# Altium schematic symbol library Connectors Sym Lib.SchLib: 80 symbols
Pins are listed as number, name and electrical type; pins without a type are passive.

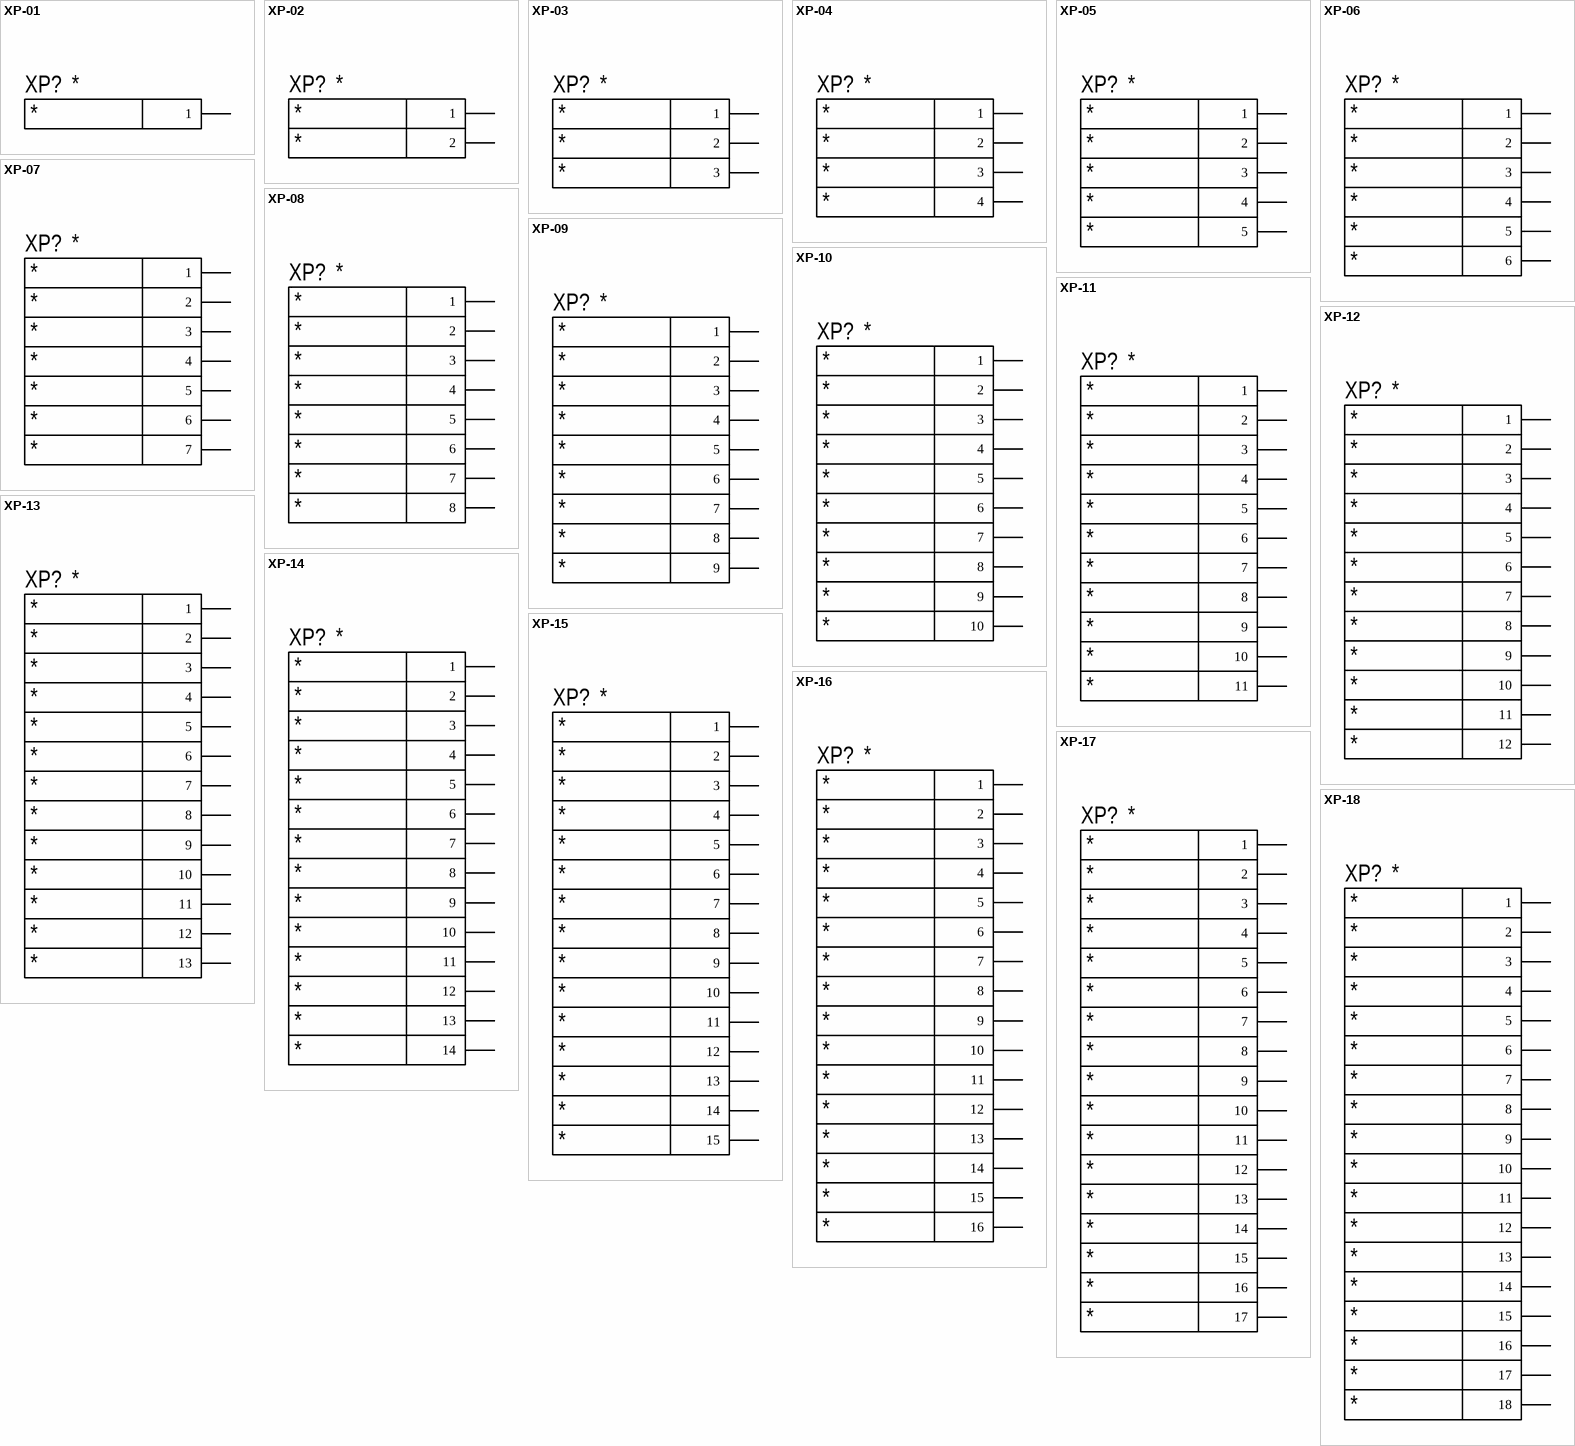
[diagram p0: symbols XP-01 to XP-18]

## XP-01
designator XP?
Pin 1 Name: *; Name Connector: *
pins: 1

## XP-02
designator XP?
Pin 2 Name: *; Pin 1 Name: *; Name Connector: *
pins: 1, 2

## XP-03
designator XP?
Pin 3 Name: *; Pin 2 Name: *; Pin 1 Name: *; Name Connector: *
pins: 1, 2, 3

## XP-04
designator XP?
Pin 4 Name: *; Pin 3 Name: *; Pin 2 Name: *; Pin 1 Name: *; Name Connector: *
pins: 1, 2, 3, 4

## XP-05
designator XP?
Pin 5 Name: *; Pin 4 Name: *; Pin 3 Name: *; Pin 2 Name: *; Pin 1 Name: *; Name Connector: *
pins: 1, 2, 3, 4, 5

## XP-06
designator XP?
Pin 6 Name: *; Pin 5 Name: *; Pin 4 Name: *; Pin 3 Name: *; Pin 2 Name: *; Pin 1 Name: *; Name Connector: *
pins: 1, 2, 3, 4, 5, 6

## XP-07
designator XP?
Pin 7 Name: *; Pin 6 Name: *; Pin 5 Name: *; Pin 4 Name: *; Pin 3 Name: *; Pin 2 Name: *; Pin 1 Name: *; Name Connector: *
pins: 1, 2, 3, 4, 5, 6, 7

## XP-08
designator XP?
Pin 8 Name: *; Pin 7 Name: *; Pin 6 Name: *; Pin 5 Name: *; Pin 4 Name: *; Pin 3 Name: *; Pin 2 Name: *; Pin 1 Name: *; Name Connector: *
pins: 1, 2, 3, 4, 5, 6, 7, 8

## XP-09
designator XP?
Pin 9 Name: *; Pin 8 Name: *; Pin 7 Name: *; Pin 6 Name: *; Pin 5 Name: *; Pin 4 Name: *; Pin 3 Name: *; Pin 2 Name: *; Pin 1 Name: *; Name Connector: *
pins: 1, 2, 3, 4, 5, 6, 7, 8, 9

## XP-10
designator XP?
Pin 10 Name: *; Pin 9 Name: *; Pin 8 Name: *; Pin 7 Name: *; Pin 6 Name: *; Pin 5 Name: *; Pin 4 Name: *; Pin 3 Name: *; Pin 2 Name: *; Pin 1 Name: *; Name Connector: *
pins: 1, 2, 3, 4, 5, 6, 7, 8, 9, 10

## XP-11
designator XP?
Pin 11 Name: *; Pin 10 Name: *; Pin 9 Name: *; Pin 8 Name: *; Pin 7 Name: *; Pin 6 Name: *; Pin 5 Name: *; Pin 4 Name: *; Pin 3 Name: *; Pin 2 Name: *; Pin 1 Name: *; Name Connector: *
pins: 1, 2, 3, 4, 5, 6, 7, 8, 9, 10, 11

## XP-12
designator XP?
Pin 12 Name: *; Pin 11 Name: *; Pin 10 Name: *; Pin 9 Name: *; Pin 8 Name: *; Pin 7 Name: *; Pin 6 Name: *; Pin 5 Name: *; Pin 4 Name: *; Pin 3 Name: *; Pin 2 Name: *; Pin 1 Name: *; Name Connector: *
pins: 1, 2, 3, 4, 5, 6, 7, 8, 9, 10, 11, 12

## XP-13
designator XP?
Pin 13 Name: *; Pin 12 Name: *; Pin 11 Name: *; Pin 10 Name: *; Pin 9 Name: *; Pin 8 Name: *; Pin 7 Name: *; Pin 6 Name: *; Pin 5 Name: *; Pin 4 Name: *; Pin 3 Name: *; Pin 2 Name: *; Pin 1 Name: *; Name Connector: *
pins: 1, 2, 3, 4, 5, 6, 7, 8, 9, 10, 11, 12, 13

## XP-14
designator XP?
Pin 14 Name: *; Pin 13 Name: *; Pin 12 Name: *; Pin 11 Name: *; Pin 10 Name: *; Pin 9 Name: *; Pin 8 Name: *; Pin 7 Name: *; Pin 6 Name: *; Pin 5 Name: *; Pin 4 Name: *; Pin 3 Name: *; Pin 2 Name: *; Pin 1 Name: *; Name Connector: *
pins: 1, 2, 3, 4, 5, 6, 7, 8, 9, 10, 11, 12, 13, 14

## XP-15
designator XP?
Pin 15 Name: *; Pin 14 Name: *; Pin 13 Name: *; Pin 12 Name: *; Pin 11 Name: *; Pin 10 Name: *; Pin 9 Name: *; Pin 8 Name: *; Pin 7 Name: *; Pin 6 Name: *; Pin 5 Name: *; Pin 4 Name: *; Pin 3 Name: *; Pin 2 Name: *; Pin 1 Name: *; Name Connector: *
pins: 1, 2, 3, 4, 5, 6, 7, 8, 9, 10, 11, 12, 13, 14, 15

## XP-16
designator XP?
Pin 16 Name: *; Pin 15 Name: *; Pin 14 Name: *; Pin 13 Name: *; Pin 12 Name: *; Pin 11 Name: *; Pin 10 Name: *; Pin 9 Name: *; Pin 8 Name: *; Pin 7 Name: *; Pin 6 Name: *; Pin 5 Name: *; Pin 4 Name: *; Pin 3 Name: *; Pin 2 Name: *; Pin 1 Name: *; Name Connector: *
pins: 1, 2, 3, 4, 5, 6, 7, 8, 9, 10, 11, 12, 13, 14, 15, 16

## XP-17
designator XP?
Pin 17 Name: *; Pin 16 Name: *; Pin 15 Name: *; Pin 14 Name: *; Pin 13 Name: *; Pin 12 Name: *; Pin 11 Name: *; Pin 10 Name: *; Pin 9 Name: *; Pin 8 Name: *; Pin 7 Name: *; Pin 6 Name: *; Pin 5 Name: *; Pin 4 Name: *; Pin 3 Name: *; Pin 2 Name: *; Pin 1 Name: *; Name Connector: *
pins: 1, 2, 3, 4, 5, 6, 7, 8, 9, 10, 11, 12, 13, 14, 15, 16, 17

## XP-18
designator XP?
Pin 18 Name: *; Pin 17 Name: *; Pin 16 Name: *; Pin 15 Name: *; Pin 14 Name: *; Pin 13 Name: *; Pin 12 Name: *; Pin 11 Name: *; Pin 10 Name: *; Pin 9 Name: *; Pin 8 Name: *; Pin 7 Name: *; Pin 6 Name: *; Pin 5 Name: *; Pin 4 Name: *; Pin 3 Name: *; Pin 2 Name: *; Pin 1 Name: *; Name Connector: *
pins: 1, 2, 3, 4, 5, 6, 7, 8, 9, 10, 11, 12, 13, 14, 15, 16, 17, 18

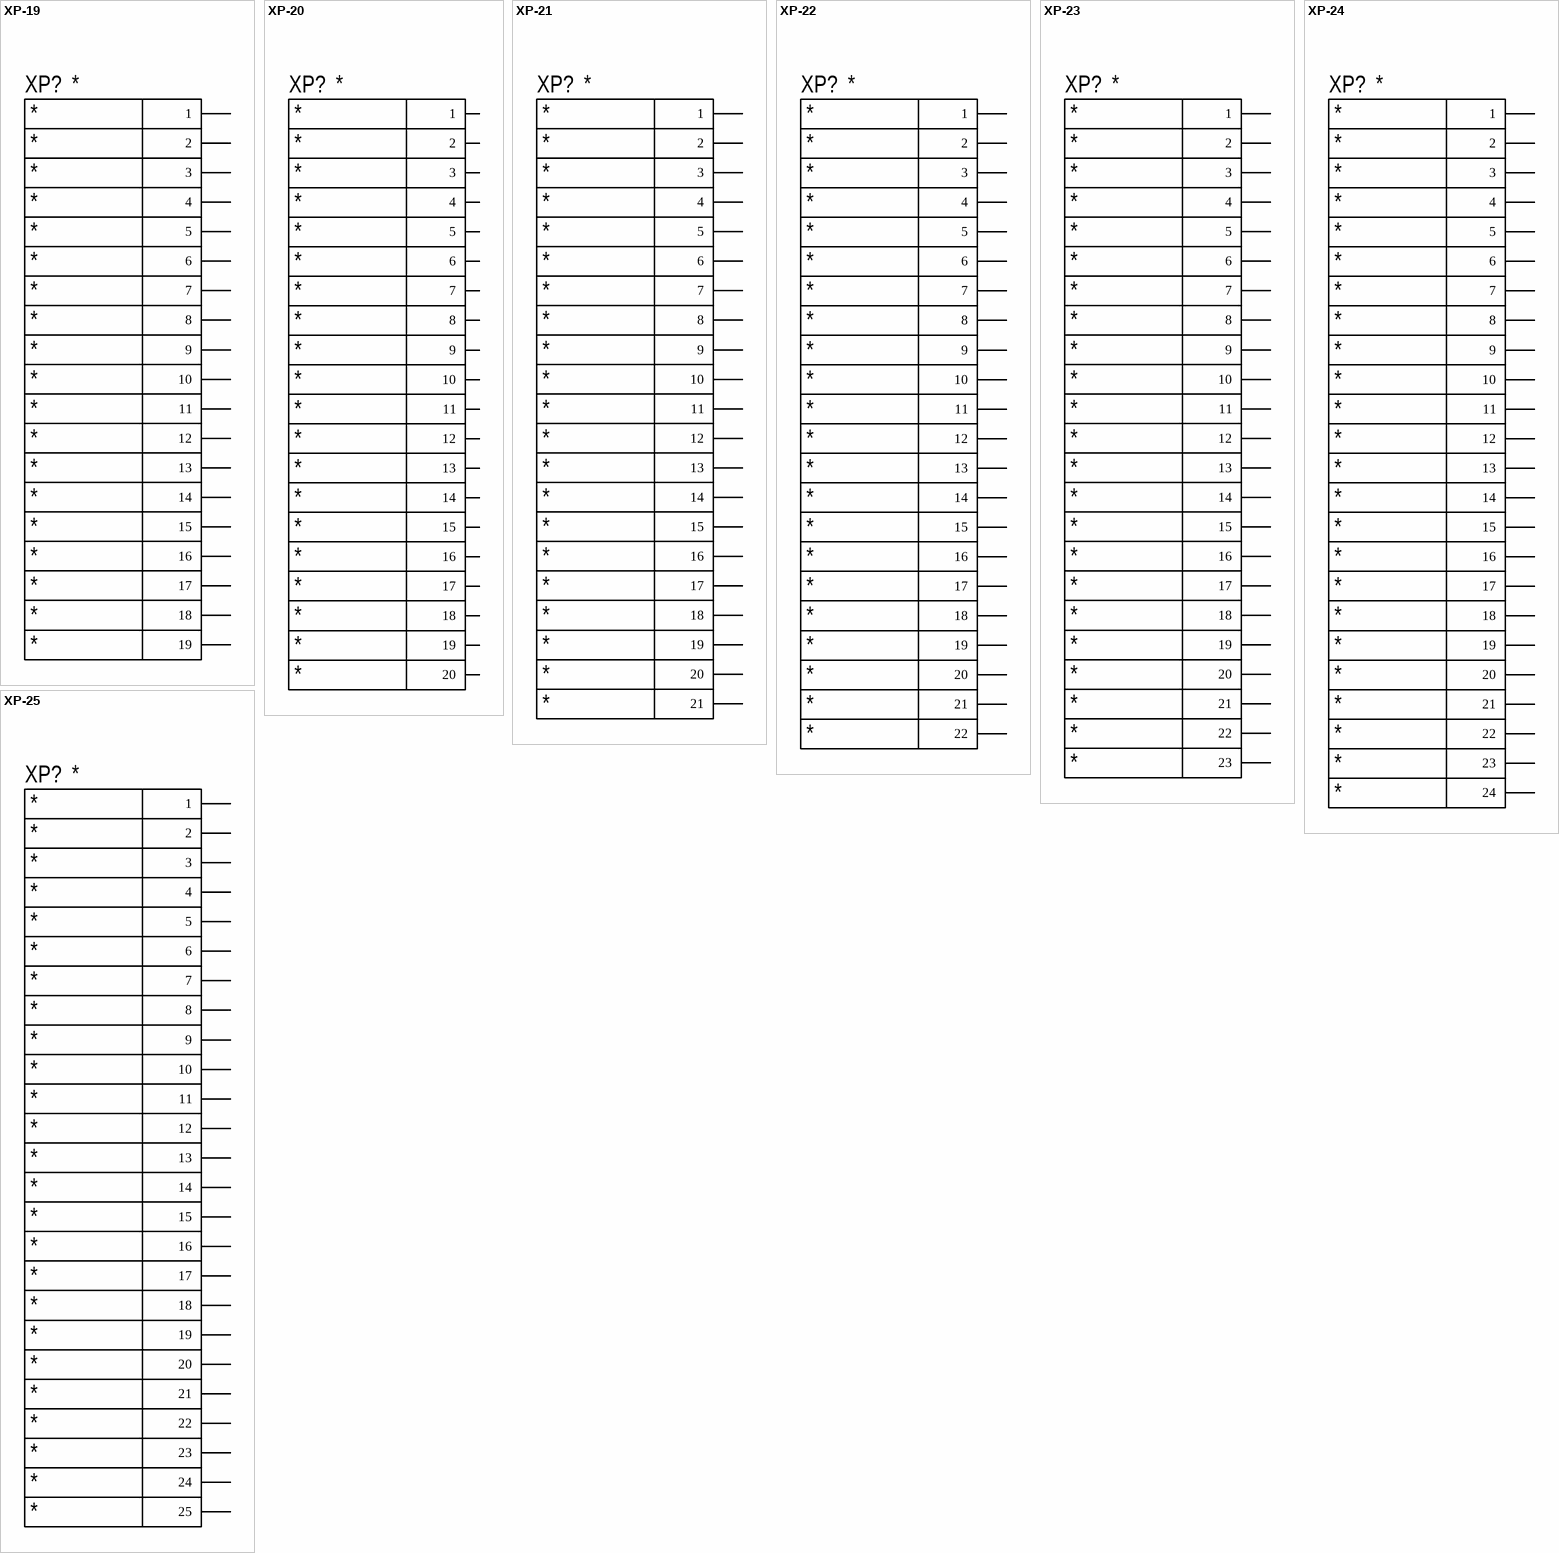
[diagram p1: symbols XP-19 to XP-25]

## XP-19
designator XP?
Pin 19 Name: *; Pin 18 Name: *; Pin 17 Name: *; Pin 16 Name: *; Pin 15 Name: *; Pin 14 Name: *; Pin 13 Name: *; Pin 12 Name: *; Pin 11 Name: *; Pin 10 Name: *; Pin 9 Name: *; Pin 8 Name: *; Pin 7 Name: *; Pin 6 Name: *; Pin 5 Name: *; Pin 4 Name: *; Pin 3 Name: *; Pin 2 Name: *; Pin 1 Name: *; Name Connector: *
pins: 1, 2, 3, 4, 5, 6, 7, 8, 9, 10, 11, 12, 13, 14, 15, 16, 17, 18, 19

## XP-20
designator XP?
Pin 20 Name: *; Pin 19 Name: *; Pin 18 Name: *; Pin 17 Name: *; Pin 16 Name: *; Pin 15 Name: *; Pin 14 Name: *; Pin 13 Name: *; Pin 12 Name: *; Pin 11 Name: *; Pin 10 Name: *; Pin 9 Name: *; Pin 8 Name: *; Pin 7 Name: *; Pin 6 Name: *; Pin 5 Name: *; Pin 4 Name: *; Pin 3 Name: *; Pin 2 Name: *; Pin 1 Name: *; Name Connector: *
pins: 1, 2, 3, 4, 5, 6, 7, 8, 9, 10, 11, 12, 13, 14, 15, 16, 17, 18, 19, 20

## XP-21
designator XP?
Pin 21 Name: *; Pin 20 Name: *; Pin 19 Name: *; Pin 18 Name: *; Pin 17 Name: *; Pin 16 Name: *; Pin 15 Name: *; Pin 14 Name: *; Pin 13 Name: *; Pin 12 Name: *; Pin 11 Name: *; Pin 10 Name: *; Pin 9 Name: *; Pin 8 Name: *; Pin 7 Name: *; Pin 6 Name: *; Pin 5 Name: *; Pin 4 Name: *; Pin 3 Name: *; Pin 2 Name: *; Pin 1 Name: *; Name Connector: *
pins: 1, 2, 3, 4, 5, 6, 7, 8, 9, 10, 11, 12, 13, 14, 15, 16, 17, 18, 19, 20, 21

## XP-22
designator XP?
Pin 22 Name: *; Pin 21 Name: *; Pin 20 Name: *; Pin 19 Name: *; Pin 18 Name: *; Pin 17 Name: *; Pin 16 Name: *; Pin 15 Name: *; Pin 14 Name: *; Pin 13 Name: *; Pin 12 Name: *; Pin 11 Name: *; Pin 10 Name: *; Pin 9 Name: *; Pin 8 Name: *; Pin 7 Name: *; Pin 6 Name: *; Pin 5 Name: *; Pin 4 Name: *; Pin 3 Name: *; Pin 2 Name: *; Pin 1 Name: *; Name Connector: *
pins: 1, 2, 3, 4, 5, 6, 7, 8, 9, 10, 11, 12, 13, 14, 15, 16, 17, 18, 19, 20, 21, 22

## XP-23
designator XP?
Pin 23 Name: *; Pin 22 Name: *; Pin 21 Name: *; Pin 20 Name: *; Pin 19 Name: *; Pin 18 Name: *; Pin 17 Name: *; Pin 16 Name: *; Pin 15 Name: *; Pin 14 Name: *; Pin 13 Name: *; Pin 12 Name: *; Pin 11 Name: *; Pin 10 Name: *; Pin 9 Name: *; Pin 8 Name: *; Pin 7 Name: *; Pin 6 Name: *; Pin 5 Name: *; Pin 4 Name: *; Pin 3 Name: *; Pin 2 Name: *; Pin 1 Name: *; Name Connector: *
pins: 1, 2, 3, 4, 5, 6, 7, 8, 9, 10, 11, 12, 13, 14, 15, 16, 17, 18, 19, 20, 21, 22, 23

## XP-24
designator XP?
Pin 24 Name: *; Pin 23 Name: *; Pin 22 Name: *; Pin 21 Name: *; Pin 20 Name: *; Pin 19 Name: *; Pin 18 Name: *; Pin 17 Name: *; Pin 16 Name: *; Pin 15 Name: *; Pin 14 Name: *; Pin 13 Name: *; Pin 12 Name: *; Pin 11 Name: *; Pin 10 Name: *; Pin 9 Name: *; Pin 8 Name: *; Pin 7 Name: *; Pin 6 Name: *; Pin 5 Name: *; Pin 4 Name: *; Pin 3 Name: *; Pin 2 Name: *; Pin 1 Name: *; Name Connector: *
pins: 1, 2, 3, 4, 5, 6, 7, 8, 9, 10, 11, 12, 13, 14, 15, 16, 17, 18, 19, 20, 21, 22, 23, 24

## XP-25
designator XP?
Pin 25 Name: *; Pin 24 Name: *; Pin 23 Name: *; Pin 22 Name: *; Pin 21 Name: *; Pin 20 Name: *; Pin 19 Name: *; Pin 18 Name: *; Pin 17 Name: *; Pin 16 Name: *; Pin 15 Name: *; Pin 14 Name: *; Pin 13 Name: *; Pin 12 Name: *; Pin 11 Name: *; Pin 10 Name: *; Pin 9 Name: *; Pin 8 Name: *; Pin 7 Name: *; Pin 6 Name: *; Pin 5 Name: *; Pin 4 Name: *; Pin 3 Name: *; Pin 2 Name: *; Pin 1 Name: *; Name Connector: *
pins: 1, 2, 3, 4, 5, 6, 7, 8, 9, 10, 11, 12, 13, 14, 15, 16, 17, 18, 19, 20, 21, 22, 23, 24, 25

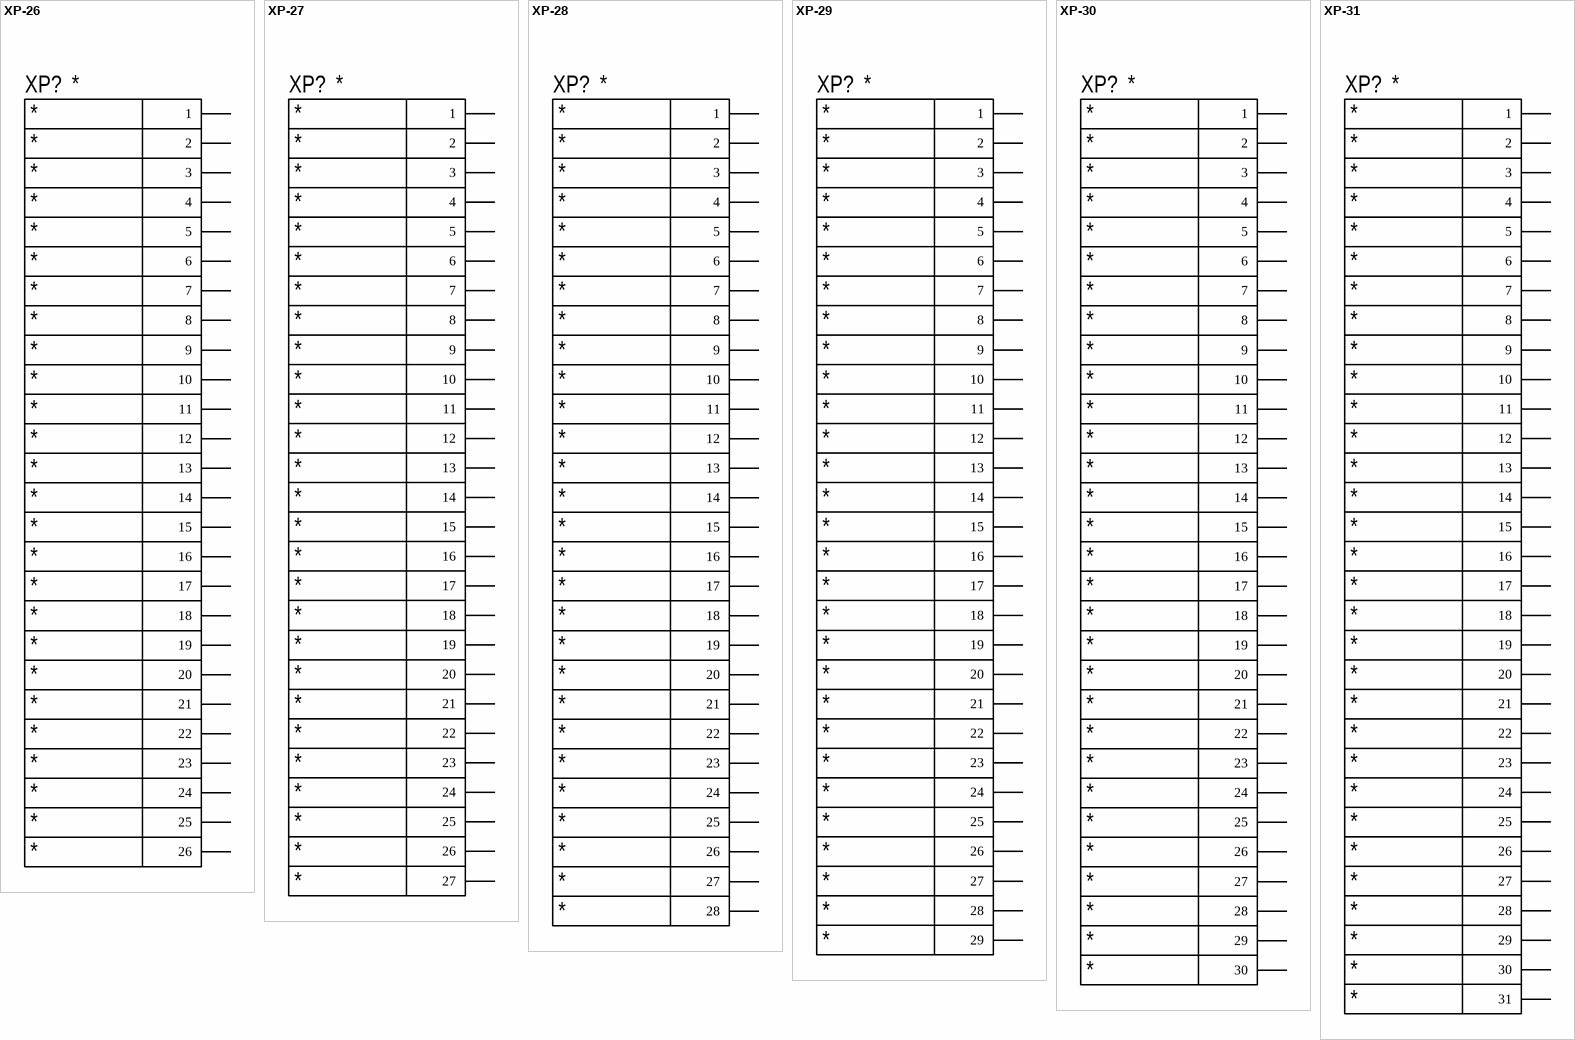
[diagram p2: symbols XP-26 to XP-31]

## XP-26
designator XP?
Pin 25 Name: *; Pin 24 Name: *; Pin 23 Name: *; Pin 22 Name: *; Pin 21 Name: *; Pin 20 Name: *; Pin 19 Name: *; Pin 18 Name: *; Pin 17 Name: *; Pin 16 Name: *; Pin 15 Name: *; Pin 14 Name: *; Pin 13 Name: *; Pin 12 Name: *; Pin 11 Name: *; Pin 10 Name: *; Pin 9 Name: *; Pin 8 Name: *; Pin 7 Name: *; Pin 6 Name: *; Pin 5 Name: *; Pin 4 Name: *; Pin 3 Name: *; Pin 2 Name: *; Pin 1 Name: *; Name Connector: *; Pin 26 Name: *
pins: 1, 2, 3, 4, 5, 6, 7, 8, 9, 10, 11, 12, 13, 14, 15, 16, 17, 18, 19, 20, 21, 22, 23, 24, 25, 26

## XP-27
designator XP?
Pin 25 Name: *; Pin 24 Name: *; Pin 23 Name: *; Pin 22 Name: *; Pin 21 Name: *; Pin 20 Name: *; Pin 19 Name: *; Pin 18 Name: *; Pin 17 Name: *; Pin 16 Name: *; Pin 15 Name: *; Pin 14 Name: *; Pin 13 Name: *; Pin 12 Name: *; Pin 11 Name: *; Pin 10 Name: *; Pin 9 Name: *; Pin 8 Name: *; Pin 7 Name: *; Pin 6 Name: *; Pin 5 Name: *; Pin 4 Name: *; Pin 3 Name: *; Pin 2 Name: *; Pin 1 Name: *; Name Connector: *; Pin 26 Name: *; Pin 27 Name: *
pins: 1, 2, 3, 4, 5, 6, 7, 8, 9, 10, 11, 12, 13, 14, 15, 16, 17, 18, 19, 20, 21, 22, 23, 24, 25, 26, 27

## XP-28
designator XP?
Pin 25 Name: *; Pin 24 Name: *; Pin 23 Name: *; Pin 22 Name: *; Pin 21 Name: *; Pin 20 Name: *; Pin 19 Name: *; Pin 18 Name: *; Pin 17 Name: *; Pin 16 Name: *; Pin 15 Name: *; Pin 14 Name: *; Pin 13 Name: *; Pin 12 Name: *; Pin 11 Name: *; Pin 10 Name: *; Pin 9 Name: *; Pin 8 Name: *; Pin 7 Name: *; Pin 6 Name: *; Pin 5 Name: *; Pin 4 Name: *; Pin 3 Name: *; Pin 2 Name: *; Pin 1 Name: *; Name Connector: *; Pin 26 Name: *; Pin 27 Name: *; Pin 28 Name: *
pins: 1, 2, 3, 4, 5, 6, 7, 8, 9, 10, 11, 12, 13, 14, 15, 16, 17, 18, 19, 20, 21, 22, 23, 24, 25, 26, 27, 28

## XP-29
designator XP?
Pin 25 Name: *; Pin 24 Name: *; Pin 23 Name: *; Pin 22 Name: *; Pin 21 Name: *; Pin 20 Name: *; Pin 19 Name: *; Pin 18 Name: *; Pin 17 Name: *; Pin 16 Name: *; Pin 15 Name: *; Pin 14 Name: *; Pin 13 Name: *; Pin 12 Name: *; Pin 11 Name: *; Pin 10 Name: *; Pin 9 Name: *; Pin 8 Name: *; Pin 7 Name: *; Pin 6 Name: *; Pin 5 Name: *; Pin 4 Name: *; Pin 3 Name: *; Pin 2 Name: *; Pin 1 Name: *; Name Connector: *; Pin 26 Name: *; Pin 27 Name: *; Pin 28 Name: *; Pin 29 Name: *
pins: 1, 2, 3, 4, 5, 6, 7, 8, 9, 10, 11, 12, 13, 14, 15, 16, 17, 18, 19, 20, 21, 22, 23, 24, 25, 26, 27, 28, 29

## XP-30
designator XP?
Pin 25 Name: *; Pin 24 Name: *; Pin 23 Name: *; Pin 22 Name: *; Pin 21 Name: *; Pin 20 Name: *; Pin 19 Name: *; Pin 18 Name: *; Pin 17 Name: *; Pin 16 Name: *; Pin 15 Name: *; Pin 14 Name: *; Pin 13 Name: *; Pin 12 Name: *; Pin 11 Name: *; Pin 10 Name: *; Pin 9 Name: *; Pin 8 Name: *; Pin 7 Name: *; Pin 6 Name: *; Pin 5 Name: *; Pin 4 Name: *; Pin 3 Name: *; Pin 2 Name: *; Pin 1 Name: *; Name Connector: *; Pin 26 Name: *; Pin 27 Name: *; Pin 28 Name: *; Pin 29 Name: *; Pin 30 Name: *
pins: 1, 2, 3, 4, 5, 6, 7, 8, 9, 10, 11, 12, 13, 14, 15, 16, 17, 18, 19, 20, 21, 22, 23, 24, 25, 26, 27, 28, 29, 30

## XP-31
designator XP?
Pin 25 Name: *; Pin 24 Name: *; Pin 23 Name: *; Pin 22 Name: *; Pin 21 Name: *; Pin 20 Name: *; Pin 19 Name: *; Pin 18 Name: *; Pin 17 Name: *; Pin 16 Name: *; Pin 15 Name: *; Pin 14 Name: *; Pin 13 Name: *; Pin 12 Name: *; Pin 11 Name: *; Pin 10 Name: *; Pin 9 Name: *; Pin 8 Name: *; Pin 7 Name: *; Pin 6 Name: *; Pin 5 Name: *; Pin 4 Name: *; Pin 3 Name: *; Pin 2 Name: *; Pin 1 Name: *; Name Connector: *; Pin 26 Name: *; Pin 27 Name: *; Pin 28 Name: *; Pin 29 Name: *; Pin 30 Name: *; Pin 31 Name: *
pins: 1, 2, 3, 4, 5, 6, 7, 8, 9, 10, 11, 12, 13, 14, 15, 16, 17, 18, 19, 20, 21, 22, 23, 24, 25, 26, 27, 28, 29, 30, 31

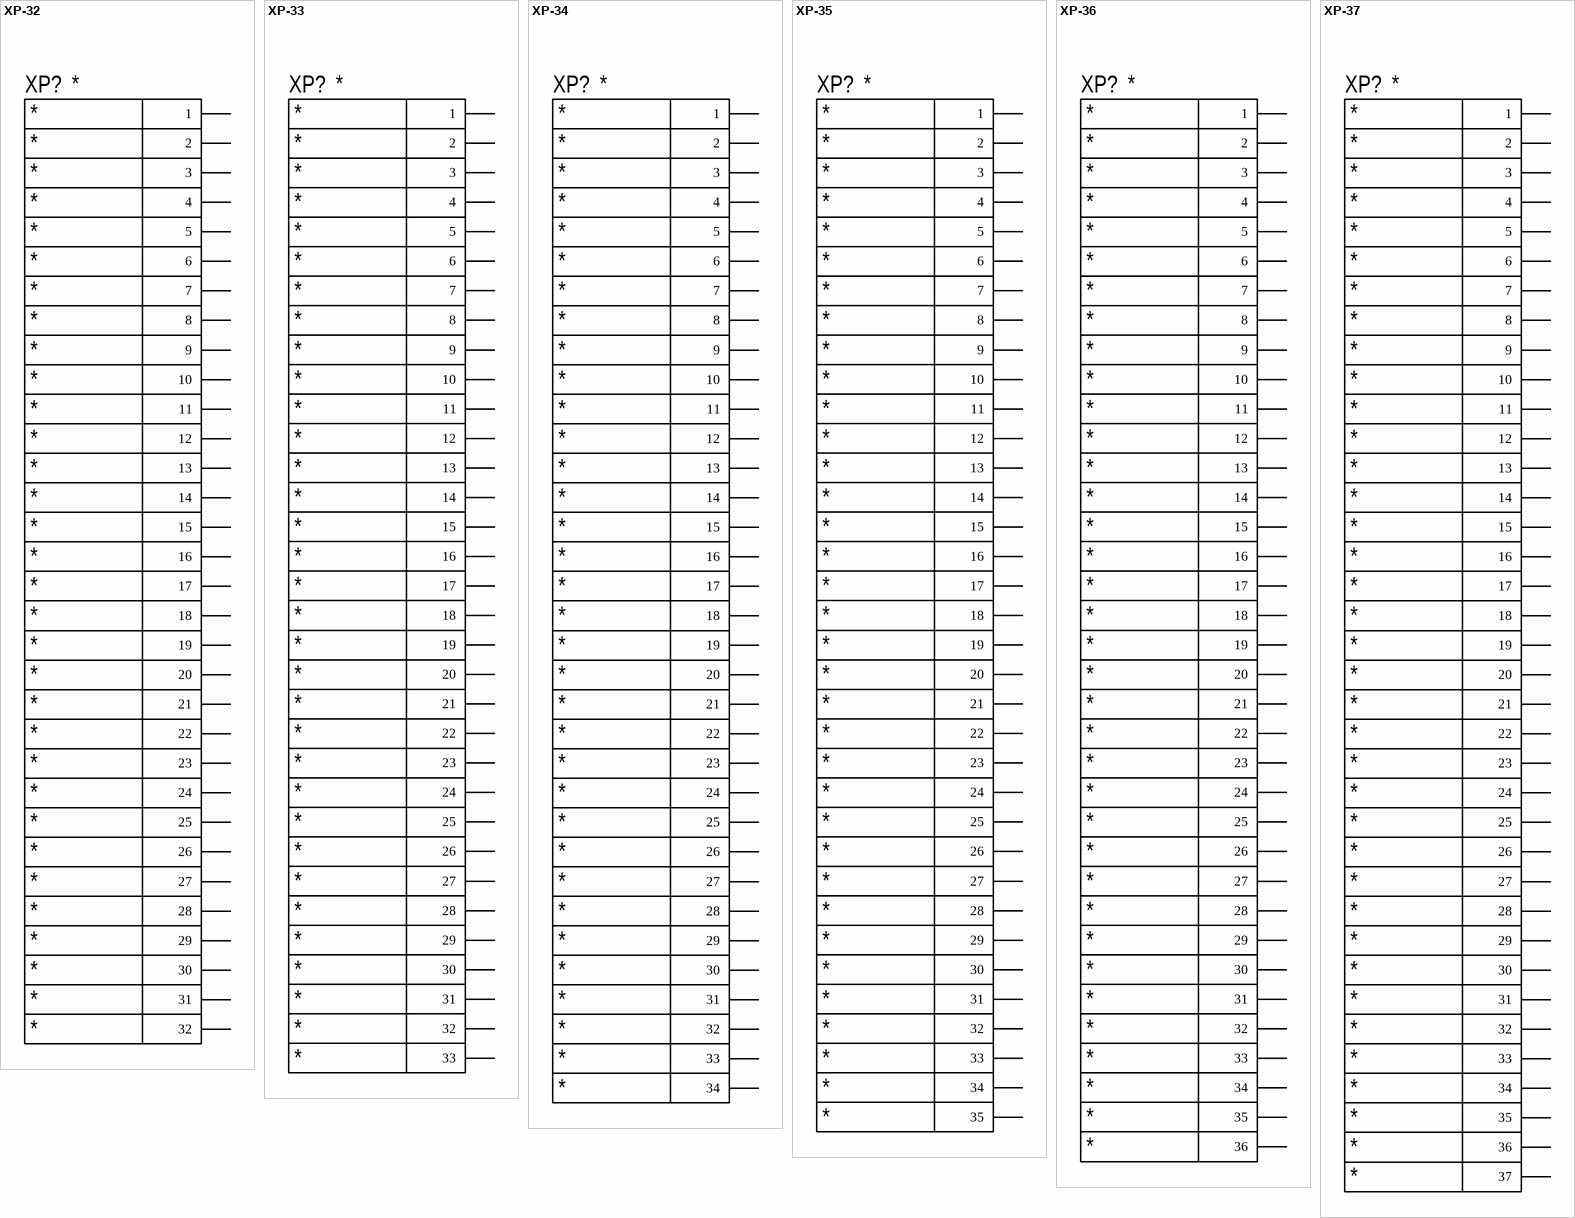
[diagram p3: symbols XP-32 to XP-37]

## XP-32
designator XP?
Pin 25 Name: *; Pin 24 Name: *; Pin 23 Name: *; Pin 22 Name: *; Pin 21 Name: *; Pin 20 Name: *; Pin 19 Name: *; Pin 18 Name: *; Pin 17 Name: *; Pin 16 Name: *; Pin 15 Name: *; Pin 14 Name: *; Pin 13 Name: *; Pin 12 Name: *; Pin 11 Name: *; Pin 10 Name: *; Pin 9 Name: *; Pin 8 Name: *; Pin 7 Name: *; Pin 6 Name: *; Pin 5 Name: *; Pin 4 Name: *; Pin 3 Name: *; Pin 2 Name: *; Pin 1 Name: *; Name Connector: *; Pin 26 Name: *; Pin 27 Name: *; Pin 28 Name: *; Pin 29 Name: *; Pin 30 Name: *; Pin 31 Name: *; Pin 32 Name: *
pins: 1, 2, 3, 4, 5, 6, 7, 8, 9, 10, 11, 12, 13, 14, 15, 16, 17, 18, 19, 20, 21, 22, 23, 24, 25, 26, 27, 28, 29, 30, 31, 32

## XP-33
designator XP?
Pin 25 Name: *; Pin 24 Name: *; Pin 23 Name: *; Pin 22 Name: *; Pin 21 Name: *; Pin 20 Name: *; Pin 19 Name: *; Pin 18 Name: *; Pin 17 Name: *; Pin 16 Name: *; Pin 15 Name: *; Pin 14 Name: *; Pin 13 Name: *; Pin 12 Name: *; Pin 11 Name: *; Pin 10 Name: *; Pin 9 Name: *; Pin 8 Name: *; Pin 7 Name: *; Pin 6 Name: *; Pin 5 Name: *; Pin 4 Name: *; Pin 3 Name: *; Pin 2 Name: *; Pin 1 Name: *; Name Connector: *; Pin 26 Name: *; Pin 27 Name: *; Pin 28 Name: *; Pin 29 Name: *; Pin 30 Name: *; Pin 31 Name: *; Pin 32 Name: *; Pin 33 Name: *
pins: 1, 2, 3, 4, 5, 6, 7, 8, 9, 10, 11, 12, 13, 14, 15, 16, 17, 18, 19, 20, 21, 22, 23, 24, 25, 26, 27, 28, 29, 30, 31, 32, 33

## XP-34
designator XP?
Pin 25 Name: *; Pin 24 Name: *; Pin 23 Name: *; Pin 22 Name: *; Pin 21 Name: *; Pin 20 Name: *; Pin 19 Name: *; Pin 18 Name: *; Pin 17 Name: *; Pin 16 Name: *; Pin 15 Name: *; Pin 14 Name: *; Pin 13 Name: *; Pin 12 Name: *; Pin 11 Name: *; Pin 10 Name: *; Pin 9 Name: *; Pin 8 Name: *; Pin 7 Name: *; Pin 6 Name: *; Pin 5 Name: *; Pin 4 Name: *; Pin 3 Name: *; Pin 2 Name: *; Pin 1 Name: *; Name Connector: *; Pin 26 Name: *; Pin 27 Name: *; Pin 28 Name: *; Pin 29 Name: *; Pin 30 Name: *; Pin 31 Name: *; Pin 32 Name: *; Pin 33 Name: *; Pin 34 Name: *
pins: 1, 2, 3, 4, 5, 6, 7, 8, 9, 10, 11, 12, 13, 14, 15, 16, 17, 18, 19, 20, 21, 22, 23, 24, 25, 26, 27, 28, 29, 30, 31, 32, 33, 34

## XP-35
designator XP?
Pin 25 Name: *; Pin 24 Name: *; Pin 23 Name: *; Pin 22 Name: *; Pin 21 Name: *; Pin 20 Name: *; Pin 19 Name: *; Pin 18 Name: *; Pin 17 Name: *; Pin 16 Name: *; Pin 15 Name: *; Pin 14 Name: *; Pin 13 Name: *; Pin 12 Name: *; Pin 11 Name: *; Pin 10 Name: *; Pin 9 Name: *; Pin 8 Name: *; Pin 7 Name: *; Pin 6 Name: *; Pin 5 Name: *; Pin 4 Name: *; Pin 3 Name: *; Pin 2 Name: *; Pin 1 Name: *; Name Connector: *; Pin 26 Name: *; Pin 27 Name: *; Pin 28 Name: *; Pin 29 Name: *; Pin 30 Name: *; Pin 31 Name: *; Pin 32 Name: *; Pin 33 Name: *; Pin 34 Name: *; Pin 35 Name: *
pins: 1, 2, 3, 4, 5, 6, 7, 8, 9, 10, 11, 12, 13, 14, 15, 16, 17, 18, 19, 20, 21, 22, 23, 24, 25, 26, 27, 28, 29, 30, 31, 32, 33, 34, 35

## XP-36
designator XP?
Pin 25 Name: *; Pin 24 Name: *; Pin 23 Name: *; Pin 22 Name: *; Pin 21 Name: *; Pin 20 Name: *; Pin 19 Name: *; Pin 18 Name: *; Pin 17 Name: *; Pin 16 Name: *; Pin 15 Name: *; Pin 14 Name: *; Pin 13 Name: *; Pin 12 Name: *; Pin 11 Name: *; Pin 10 Name: *; Pin 9 Name: *; Pin 8 Name: *; Pin 7 Name: *; Pin 6 Name: *; Pin 5 Name: *; Pin 4 Name: *; Pin 3 Name: *; Pin 2 Name: *; Pin 1 Name: *; Name Connector: *; Pin 26 Name: *; Pin 27 Name: *; Pin 28 Name: *; Pin 29 Name: *; Pin 30 Name: *; Pin 31 Name: *; Pin 32 Name: *; Pin 33 Name: *; Pin 34 Name: *; Pin 35 Name: *; Pin 36 Name: *
pins: 1, 2, 3, 4, 5, 6, 7, 8, 9, 10, 11, 12, 13, 14, 15, 16, 17, 18, 19, 20, 21, 22, 23, 24, 25, 26, 27, 28, 29, 30, 31, 32, 33, 34, 35, 36

## XP-37
designator XP?
Pin 25 Name: *; Pin 24 Name: *; Pin 23 Name: *; Pin 22 Name: *; Pin 21 Name: *; Pin 20 Name: *; Pin 19 Name: *; Pin 18 Name: *; Pin 17 Name: *; Pin 16 Name: *; Pin 15 Name: *; Pin 14 Name: *; Pin 13 Name: *; Pin 12 Name: *; Pin 11 Name: *; Pin 10 Name: *; Pin 9 Name: *; Pin 8 Name: *; Pin 7 Name: *; Pin 6 Name: *; Pin 5 Name: *; Pin 4 Name: *; Pin 3 Name: *; Pin 2 Name: *; Pin 1 Name: *; Name Connector: *; Pin 26 Name: *; Pin 27 Name: *; Pin 28 Name: *; Pin 29 Name: *; Pin 30 Name: *; Pin 31 Name: *; Pin 32 Name: *; Pin 33 Name: *; Pin 34 Name: *; Pin 35 Name: *; Pin 36 Name: *; Pin 37 Name: *
pins: 1, 2, 3, 4, 5, 6, 7, 8, 9, 10, 11, 12, 13, 14, 15, 16, 17, 18, 19, 20, 21, 22, 23, 24, 25, 26, 27, 28, 29, 30, 31, 32, 33, 34, 35, 36, 37

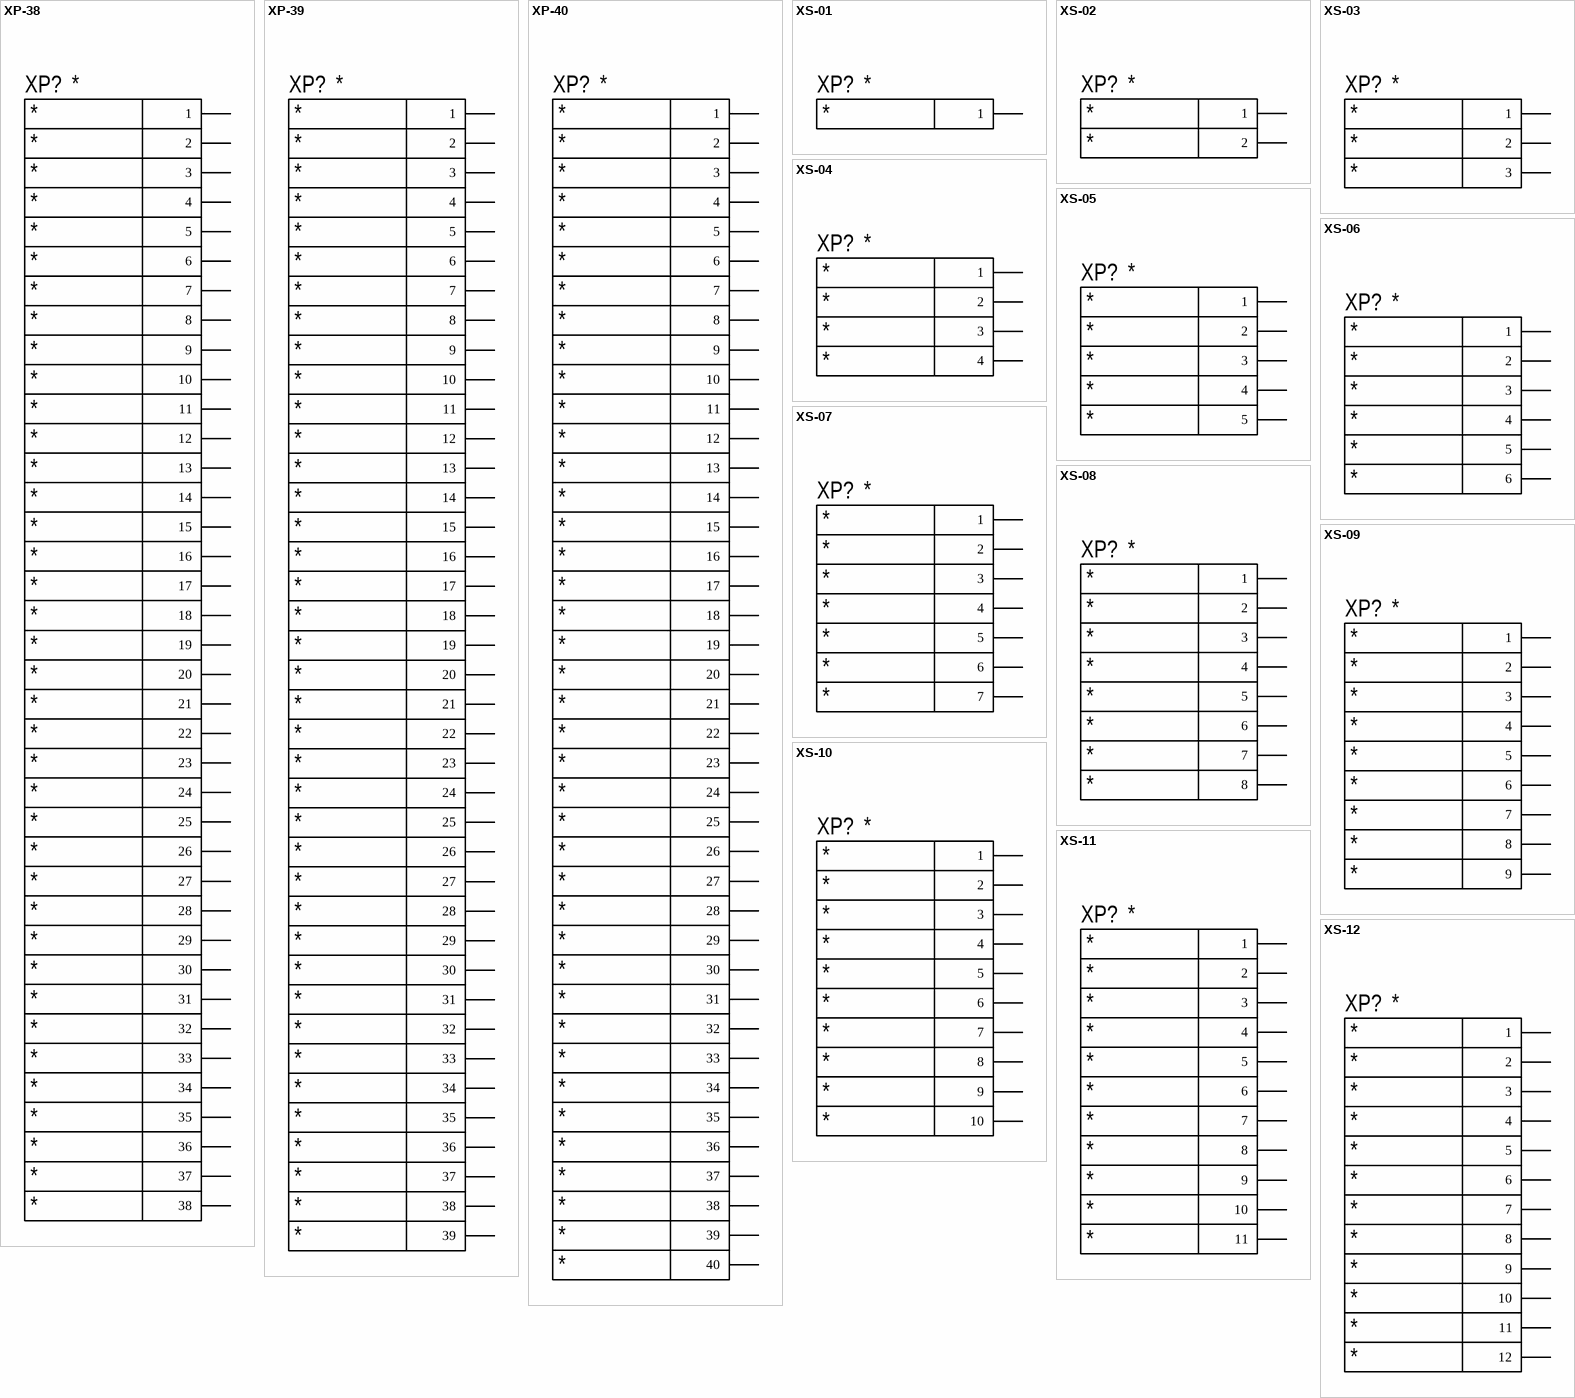
[diagram p4: symbols XP-38 to XS-12]

## XP-38
designator XP?
Pin 25 Name: *; Pin 24 Name: *; Pin 23 Name: *; Pin 22 Name: *; Pin 21 Name: *; Pin 20 Name: *; Pin 19 Name: *; Pin 18 Name: *; Pin 17 Name: *; Pin 16 Name: *; Pin 15 Name: *; Pin 14 Name: *; Pin 13 Name: *; Pin 12 Name: *; Pin 11 Name: *; Pin 10 Name: *; Pin 9 Name: *; Pin 8 Name: *; Pin 7 Name: *; Pin 6 Name: *; Pin 5 Name: *; Pin 4 Name: *; Pin 3 Name: *; Pin 2 Name: *; Pin 1 Name: *; Name Connector: *; Pin 26 Name: *; Pin 27 Name: *; Pin 28 Name: *; Pin 29 Name: *; Pin 30 Name: *; Pin 31 Name: *; Pin 32 Name: *; Pin 33 Name: *; Pin 34 Name: *; Pin 35 Name: *; Pin 36 Name: *; Pin 37 Name: *; Pin 38 Name: *
pins: 1, 2, 3, 4, 5, 6, 7, 8, 9, 10, 11, 12, 13, 14, 15, 16, 17, 18, 19, 20, 21, 22, 23, 24, 25, 26, 27, 28, 29, 30, 31, 32, 33, 34, 35, 36, 37, 38

## XP-39
designator XP?
Pin 25 Name: *; Pin 24 Name: *; Pin 23 Name: *; Pin 22 Name: *; Pin 21 Name: *; Pin 20 Name: *; Pin 19 Name: *; Pin 18 Name: *; Pin 17 Name: *; Pin 16 Name: *; Pin 15 Name: *; Pin 14 Name: *; Pin 13 Name: *; Pin 12 Name: *; Pin 11 Name: *; Pin 10 Name: *; Pin 9 Name: *; Pin 8 Name: *; Pin 7 Name: *; Pin 6 Name: *; Pin 5 Name: *; Pin 4 Name: *; Pin 3 Name: *; Pin 2 Name: *; Pin 1 Name: *; Name Connector: *; Pin 26 Name: *; Pin 27 Name: *; Pin 28 Name: *; Pin 29 Name: *; Pin 30 Name: *; Pin 31 Name: *; Pin 32 Name: *; Pin 33 Name: *; Pin 34 Name: *; Pin 35 Name: *; Pin 36 Name: *; Pin 37 Name: *; Pin 38 Name: *; Pin 39 Name: *
pins: 1, 2, 3, 4, 5, 6, 7, 8, 9, 10, 11, 12, 13, 14, 15, 16, 17, 18, 19, 20, 21, 22, 23, 24, 25, 26, 27, 28, 29, 30, 31, 32, 33, 34, 35, 36, 37, 38, 39

## XP-40
designator XP?
Pin 25 Name: *; Pin 24 Name: *; Pin 23 Name: *; Pin 22 Name: *; Pin 21 Name: *; Pin 20 Name: *; Pin 19 Name: *; Pin 18 Name: *; Pin 17 Name: *; Pin 16 Name: *; Pin 15 Name: *; Pin 14 Name: *; Pin 13 Name: *; Pin 12 Name: *; Pin 11 Name: *; Pin 10 Name: *; Pin 9 Name: *; Pin 8 Name: *; Pin 7 Name: *; Pin 6 Name: *; Pin 5 Name: *; Pin 4 Name: *; Pin 3 Name: *; Pin 2 Name: *; Pin 1 Name: *; Name Connector: *; Pin 26 Name: *; Pin 27 Name: *; Pin 28 Name: *; Pin 29 Name: *; Pin 30 Name: *; Pin 31 Name: *; Pin 32 Name: *; Pin 33 Name: *; Pin 34 Name: *; Pin 35 Name: *; Pin 36 Name: *; Pin 37 Name: *; Pin 38 Name: *; Pin 39 Name: *; Pin 40 Name: *
pins: 1, 2, 3, 4, 5, 6, 7, 8, 9, 10, 11, 12, 13, 14, 15, 16, 17, 18, 19, 20, 21, 22, 23, 24, 25, 26, 27, 28, 29, 30, 31, 32, 33, 34, 35, 36, 37, 38, 39, 40

## XS-01
designator XP?
Pin 1 Name: *; Name Connector: *
pins: 1

## XS-02
designator XP?
Pin 2 Name: *; Pin 1 Name: *; Name Connector: *
pins: 1, 2

## XS-03
designator XP?
Pin 3 Name: *; Pin 2 Name: *; Pin 1 Name: *; Name Connector: *
pins: 1, 2, 3

## XS-04
designator XP?
Pin 4 Name: *; Pin 3 Name: *; Pin 2 Name: *; Pin 1 Name: *; Name Connector: *
pins: 1, 2, 3, 4

## XS-05
designator XP?
Pin 5 Name: *; Pin 4 Name: *; Pin 3 Name: *; Pin 2 Name: *; Pin 1 Name: *; Name Connector: *
pins: 1, 2, 3, 4, 5

## XS-06
designator XP?
Pin 6 Name: *; Pin 5 Name: *; Pin 4 Name: *; Pin 3 Name: *; Pin 2 Name: *; Pin 1 Name: *; Name Connector: *
pins: 1, 2, 3, 4, 5, 6

## XS-07
designator XP?
Pin 7 Name: *; Pin 6 Name: *; Pin 5 Name: *; Pin 4 Name: *; Pin 3 Name: *; Pin 2 Name: *; Pin 1 Name: *; Name Connector: *
pins: 1, 2, 3, 4, 5, 6, 7

## XS-08
designator XP?
Pin 8 Name: *; Pin 7 Name: *; Pin 6 Name: *; Pin 5 Name: *; Pin 4 Name: *; Pin 3 Name: *; Pin 2 Name: *; Pin 1 Name: *; Name Connector: *
pins: 1, 2, 3, 4, 5, 6, 7, 8

## XS-09
designator XP?
Pin 9 Name: *; Pin 8 Name: *; Pin 7 Name: *; Pin 6 Name: *; Pin 5 Name: *; Pin 4 Name: *; Pin 3 Name: *; Pin 2 Name: *; Pin 1 Name: *; Name Connector: *
pins: 1, 2, 3, 4, 5, 6, 7, 8, 9

## XS-10
designator XP?
Pin 10 Name: *; Pin 9 Name: *; Pin 8 Name: *; Pin 7 Name: *; Pin 6 Name: *; Pin 5 Name: *; Pin 4 Name: *; Pin 3 Name: *; Pin 2 Name: *; Pin 1 Name: *; Name Connector: *
pins: 1, 2, 3, 4, 5, 6, 7, 8, 9, 10

## XS-11
designator XP?
Pin 11 Name: *; Pin 10 Name: *; Pin 9 Name: *; Pin 8 Name: *; Pin 7 Name: *; Pin 6 Name: *; Pin 5 Name: *; Pin 4 Name: *; Pin 3 Name: *; Pin 2 Name: *; Pin 1 Name: *; Name Connector: *
pins: 1, 2, 3, 4, 5, 6, 7, 8, 9, 10, 11

## XS-12
designator XP?
Pin 12 Name: *; Pin 11 Name: *; Pin 10 Name: *; Pin 9 Name: *; Pin 8 Name: *; Pin 7 Name: *; Pin 6 Name: *; Pin 5 Name: *; Pin 4 Name: *; Pin 3 Name: *; Pin 2 Name: *; Pin 1 Name: *; Name Connector: *
pins: 1, 2, 3, 4, 5, 6, 7, 8, 9, 10, 11, 12

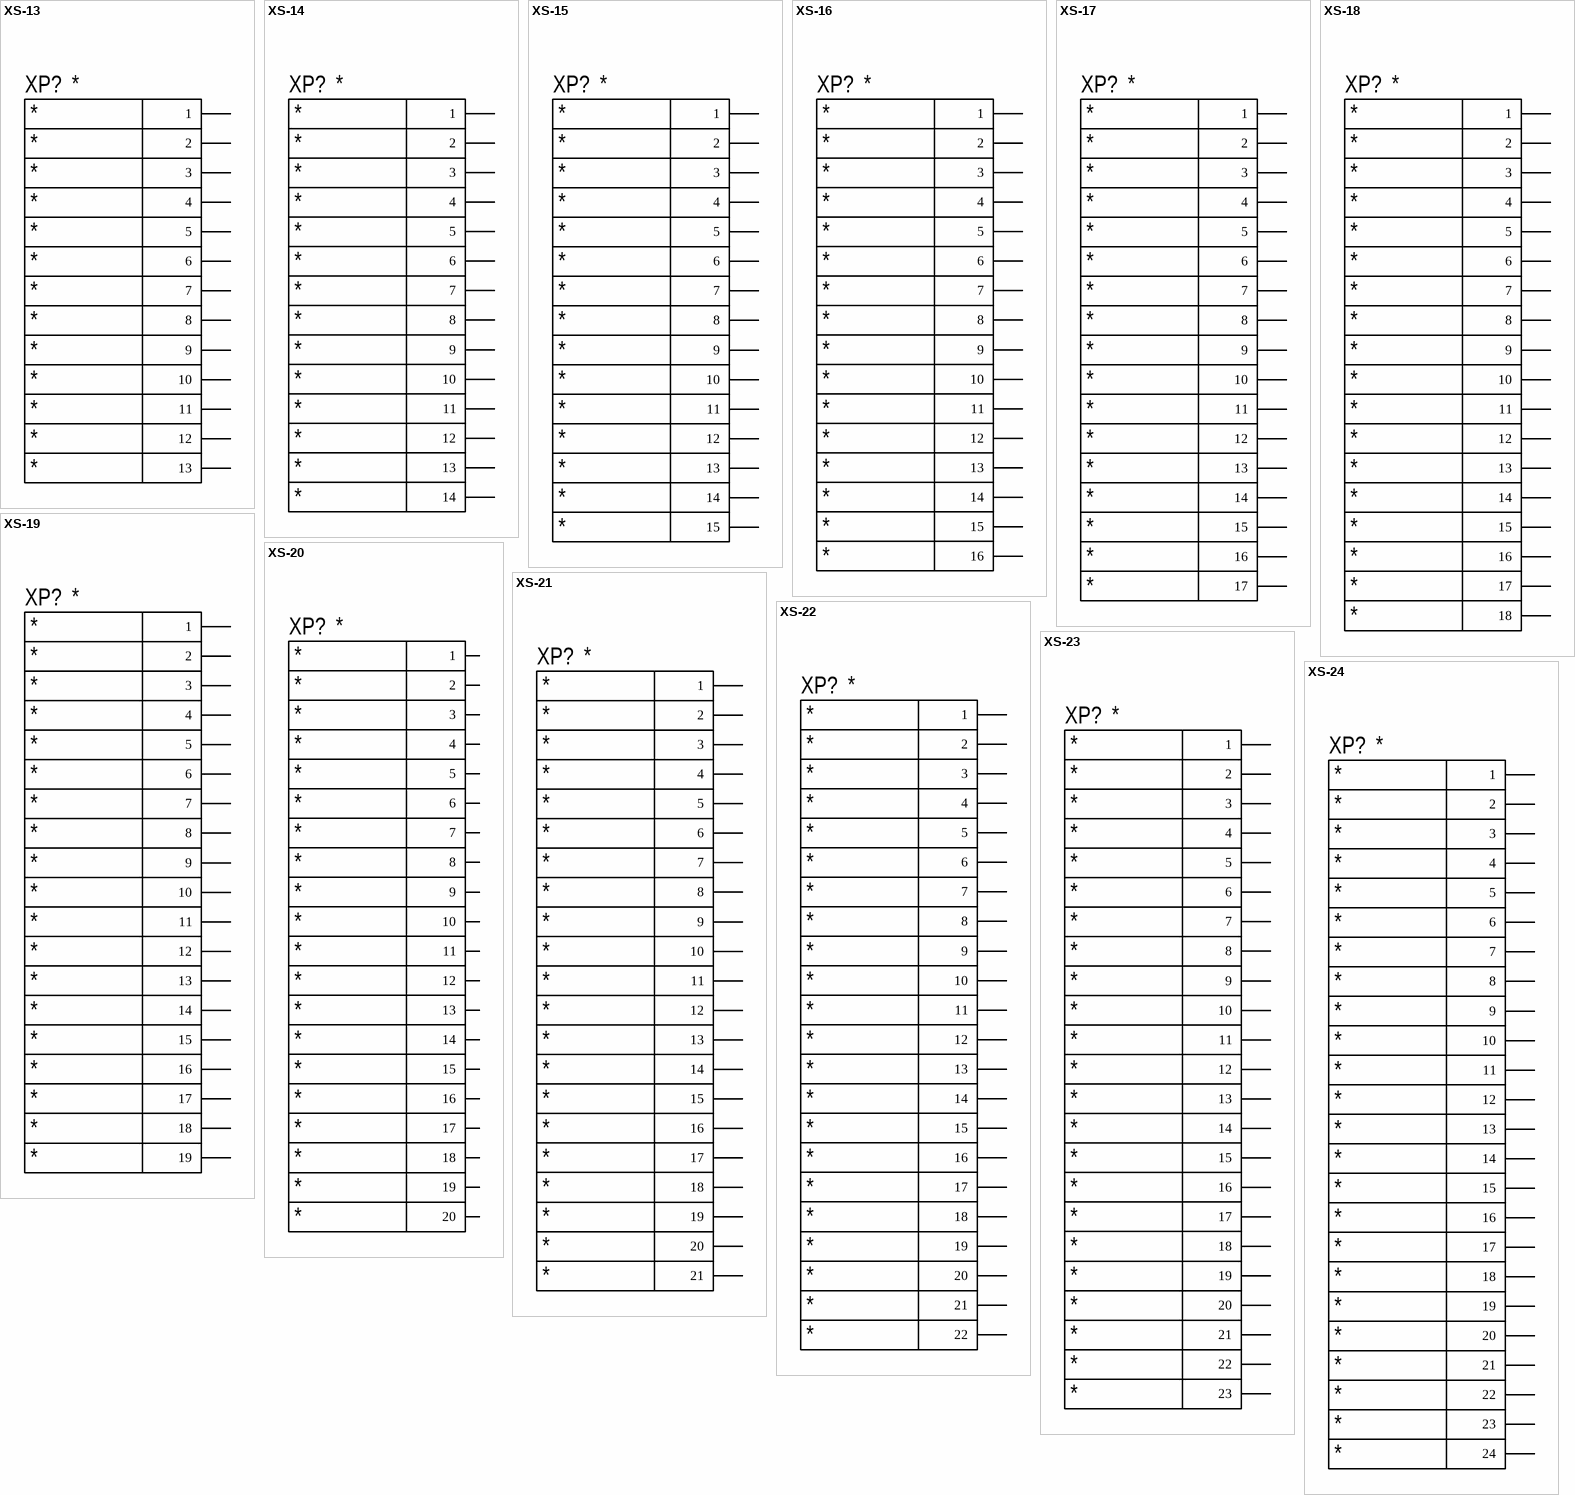
[diagram p5: symbols XS-13 to XS-24]

## XS-13
designator XP?
Pin 13 Name: *; Pin 12 Name: *; Pin 11 Name: *; Pin 10 Name: *; Pin 9 Name: *; Pin 8 Name: *; Pin 7 Name: *; Pin 6 Name: *; Pin 5 Name: *; Pin 4 Name: *; Pin 3 Name: *; Pin 2 Name: *; Pin 1 Name: *; Name Connector: *
pins: 1, 2, 3, 4, 5, 6, 7, 8, 9, 10, 11, 12, 13

## XS-14
designator XP?
Pin 14 Name: *; Pin 13 Name: *; Pin 12 Name: *; Pin 11 Name: *; Pin 10 Name: *; Pin 9 Name: *; Pin 8 Name: *; Pin 7 Name: *; Pin 6 Name: *; Pin 5 Name: *; Pin 4 Name: *; Pin 3 Name: *; Pin 2 Name: *; Pin 1 Name: *; Name Connector: *
pins: 1, 2, 3, 4, 5, 6, 7, 8, 9, 10, 11, 12, 13, 14

## XS-15
designator XP?
Pin 15 Name: *; Pin 14 Name: *; Pin 13 Name: *; Pin 12 Name: *; Pin 11 Name: *; Pin 10 Name: *; Pin 9 Name: *; Pin 8 Name: *; Pin 7 Name: *; Pin 6 Name: *; Pin 5 Name: *; Pin 4 Name: *; Pin 3 Name: *; Pin 2 Name: *; Pin 1 Name: *; Name Connector: *
pins: 1, 2, 3, 4, 5, 6, 7, 8, 9, 10, 11, 12, 13, 14, 15

## XS-16
designator XP?
Pin 16 Name: *; Pin 15 Name: *; Pin 14 Name: *; Pin 13 Name: *; Pin 12 Name: *; Pin 11 Name: *; Pin 10 Name: *; Pin 9 Name: *; Pin 8 Name: *; Pin 7 Name: *; Pin 6 Name: *; Pin 5 Name: *; Pin 4 Name: *; Pin 3 Name: *; Pin 2 Name: *; Pin 1 Name: *; Name Connector: *
pins: 1, 2, 3, 4, 5, 6, 7, 8, 9, 10, 11, 12, 13, 14, 15, 16

## XS-17
designator XP?
Pin 17 Name: *; Pin 16 Name: *; Pin 15 Name: *; Pin 14 Name: *; Pin 13 Name: *; Pin 12 Name: *; Pin 11 Name: *; Pin 10 Name: *; Pin 9 Name: *; Pin 8 Name: *; Pin 7 Name: *; Pin 6 Name: *; Pin 5 Name: *; Pin 4 Name: *; Pin 3 Name: *; Pin 2 Name: *; Pin 1 Name: *; Name Connector: *
pins: 1, 2, 3, 4, 5, 6, 7, 8, 9, 10, 11, 12, 13, 14, 15, 16, 17

## XS-18
designator XP?
Pin 18 Name: *; Pin 17 Name: *; Pin 16 Name: *; Pin 15 Name: *; Pin 14 Name: *; Pin 13 Name: *; Pin 12 Name: *; Pin 11 Name: *; Pin 10 Name: *; Pin 9 Name: *; Pin 8 Name: *; Pin 7 Name: *; Pin 6 Name: *; Pin 5 Name: *; Pin 4 Name: *; Pin 3 Name: *; Pin 2 Name: *; Pin 1 Name: *; Name Connector: *
pins: 1, 2, 3, 4, 5, 6, 7, 8, 9, 10, 11, 12, 13, 14, 15, 16, 17, 18

## XS-19
designator XP?
Pin 19 Name: *; Pin 18 Name: *; Pin 17 Name: *; Pin 16 Name: *; Pin 15 Name: *; Pin 14 Name: *; Pin 13 Name: *; Pin 12 Name: *; Pin 11 Name: *; Pin 10 Name: *; Pin 9 Name: *; Pin 8 Name: *; Pin 7 Name: *; Pin 6 Name: *; Pin 5 Name: *; Pin 4 Name: *; Pin 3 Name: *; Pin 2 Name: *; Pin 1 Name: *; Name Connector: *
pins: 1, 2, 3, 4, 5, 6, 7, 8, 9, 10, 11, 12, 13, 14, 15, 16, 17, 18, 19

## XS-20
designator XP?
Pin 20 Name: *; Pin 19 Name: *; Pin 18 Name: *; Pin 17 Name: *; Pin 16 Name: *; Pin 15 Name: *; Pin 14 Name: *; Pin 13 Name: *; Pin 12 Name: *; Pin 11 Name: *; Pin 10 Name: *; Pin 9 Name: *; Pin 8 Name: *; Pin 7 Name: *; Pin 6 Name: *; Pin 5 Name: *; Pin 4 Name: *; Pin 3 Name: *; Pin 2 Name: *; Pin 1 Name: *; Name Connector: *
pins: 1, 2, 3, 4, 5, 6, 7, 8, 9, 10, 11, 12, 13, 14, 15, 16, 17, 18, 19, 20

## XS-21
designator XP?
Pin 21 Name: *; Pin 20 Name: *; Pin 19 Name: *; Pin 18 Name: *; Pin 17 Name: *; Pin 16 Name: *; Pin 15 Name: *; Pin 14 Name: *; Pin 13 Name: *; Pin 12 Name: *; Pin 11 Name: *; Pin 10 Name: *; Pin 9 Name: *; Pin 8 Name: *; Pin 7 Name: *; Pin 6 Name: *; Pin 5 Name: *; Pin 4 Name: *; Pin 3 Name: *; Pin 2 Name: *; Pin 1 Name: *; Name Connector: *
pins: 1, 2, 3, 4, 5, 6, 7, 8, 9, 10, 11, 12, 13, 14, 15, 16, 17, 18, 19, 20, 21

## XS-22
designator XP?
Pin 22 Name: *; Pin 21 Name: *; Pin 20 Name: *; Pin 19 Name: *; Pin 18 Name: *; Pin 17 Name: *; Pin 16 Name: *; Pin 15 Name: *; Pin 14 Name: *; Pin 13 Name: *; Pin 12 Name: *; Pin 11 Name: *; Pin 10 Name: *; Pin 9 Name: *; Pin 8 Name: *; Pin 7 Name: *; Pin 6 Name: *; Pin 5 Name: *; Pin 4 Name: *; Pin 3 Name: *; Pin 2 Name: *; Pin 1 Name: *; Name Connector: *
pins: 1, 2, 3, 4, 5, 6, 7, 8, 9, 10, 11, 12, 13, 14, 15, 16, 17, 18, 19, 20, 21, 22

## XS-23
designator XP?
Pin 23 Name: *; Pin 22 Name: *; Pin 21 Name: *; Pin 20 Name: *; Pin 19 Name: *; Pin 18 Name: *; Pin 17 Name: *; Pin 16 Name: *; Pin 15 Name: *; Pin 14 Name: *; Pin 13 Name: *; Pin 12 Name: *; Pin 11 Name: *; Pin 10 Name: *; Pin 9 Name: *; Pin 8 Name: *; Pin 7 Name: *; Pin 6 Name: *; Pin 5 Name: *; Pin 4 Name: *; Pin 3 Name: *; Pin 2 Name: *; Pin 1 Name: *; Name Connector: *
pins: 1, 2, 3, 4, 5, 6, 7, 8, 9, 10, 11, 12, 13, 14, 15, 16, 17, 18, 19, 20, 21, 22, 23

## XS-24
designator XP?
Pin 24 Name: *; Pin 23 Name: *; Pin 22 Name: *; Pin 21 Name: *; Pin 20 Name: *; Pin 19 Name: *; Pin 18 Name: *; Pin 17 Name: *; Pin 16 Name: *; Pin 15 Name: *; Pin 14 Name: *; Pin 13 Name: *; Pin 12 Name: *; Pin 11 Name: *; Pin 10 Name: *; Pin 9 Name: *; Pin 8 Name: *; Pin 7 Name: *; Pin 6 Name: *; Pin 5 Name: *; Pin 4 Name: *; Pin 3 Name: *; Pin 2 Name: *; Pin 1 Name: *; Name Connector: *
pins: 1, 2, 3, 4, 5, 6, 7, 8, 9, 10, 11, 12, 13, 14, 15, 16, 17, 18, 19, 20, 21, 22, 23, 24

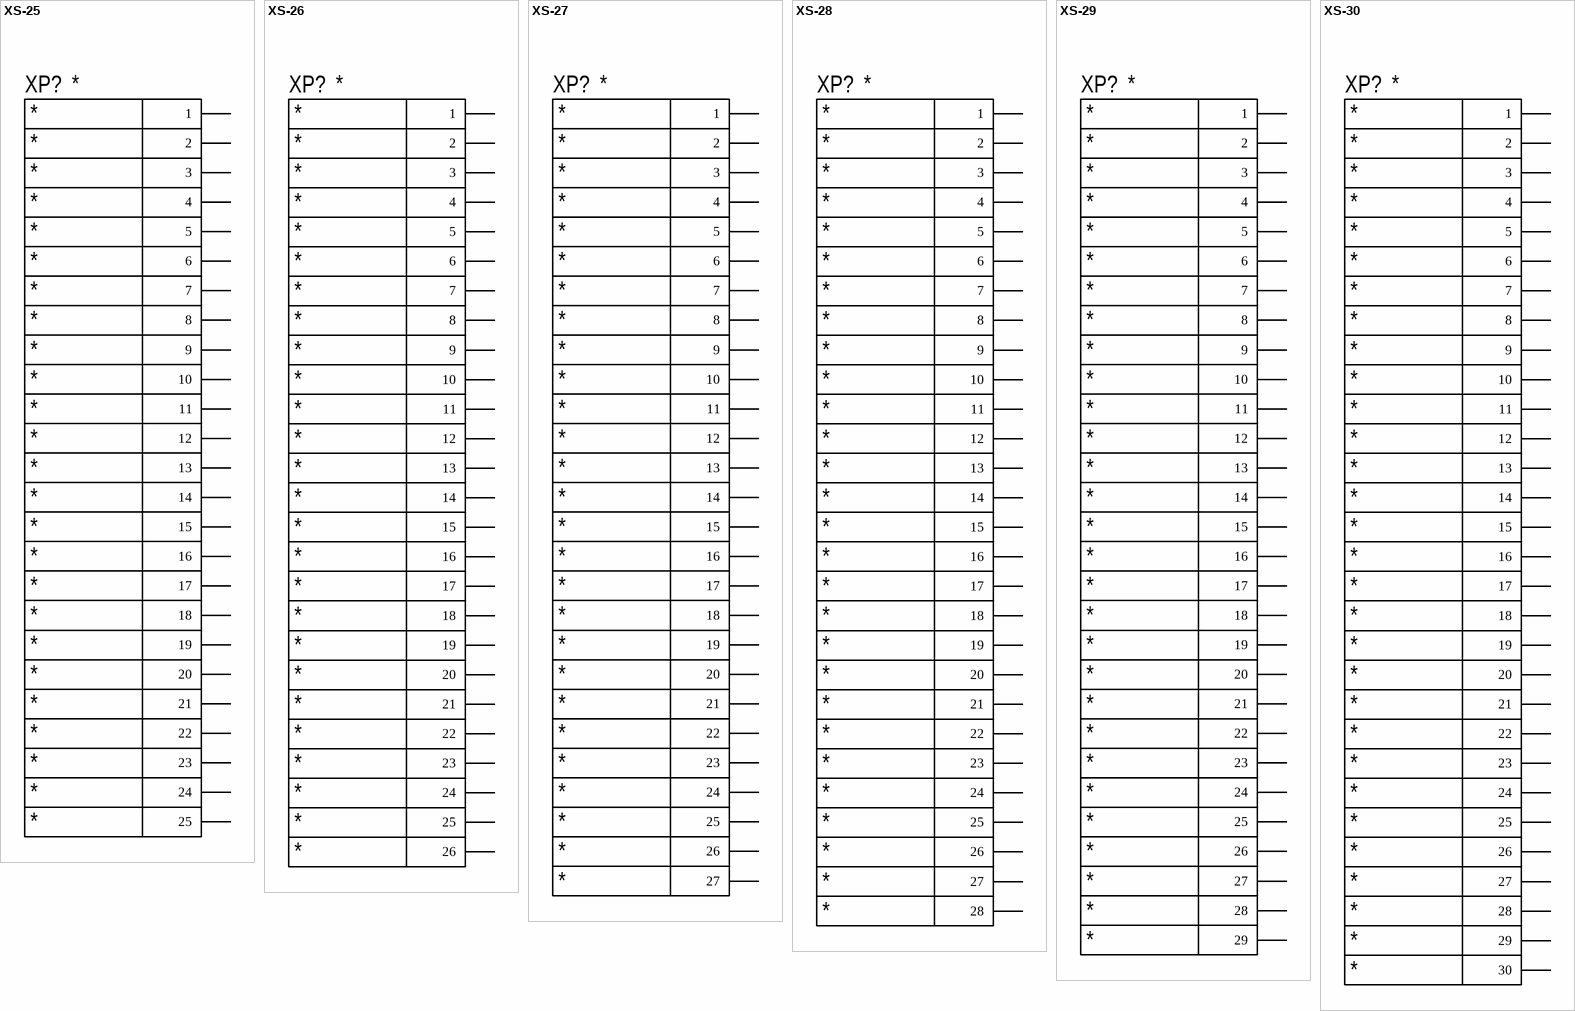
[diagram p6: symbols XS-25 to XS-30]

## XS-25
designator XP?
Pin 25 Name: *; Pin 24 Name: *; Pin 23 Name: *; Pin 22 Name: *; Pin 21 Name: *; Pin 20 Name: *; Pin 19 Name: *; Pin 18 Name: *; Pin 17 Name: *; Pin 16 Name: *; Pin 15 Name: *; Pin 14 Name: *; Pin 13 Name: *; Pin 12 Name: *; Pin 11 Name: *; Pin 10 Name: *; Pin 9 Name: *; Pin 8 Name: *; Pin 7 Name: *; Pin 6 Name: *; Pin 5 Name: *; Pin 4 Name: *; Pin 3 Name: *; Pin 2 Name: *; Pin 1 Name: *; Name Connector: *
pins: 1, 2, 3, 4, 5, 6, 7, 8, 9, 10, 11, 12, 13, 14, 15, 16, 17, 18, 19, 20, 21, 22, 23, 24, 25

## XS-26
designator XP?
Pin 25 Name: *; Pin 24 Name: *; Pin 23 Name: *; Pin 22 Name: *; Pin 21 Name: *; Pin 20 Name: *; Pin 19 Name: *; Pin 18 Name: *; Pin 17 Name: *; Pin 16 Name: *; Pin 15 Name: *; Pin 14 Name: *; Pin 13 Name: *; Pin 12 Name: *; Pin 11 Name: *; Pin 10 Name: *; Pin 9 Name: *; Pin 8 Name: *; Pin 7 Name: *; Pin 6 Name: *; Pin 5 Name: *; Pin 4 Name: *; Pin 3 Name: *; Pin 2 Name: *; Pin 1 Name: *; Name Connector: *; Pin 26 Name: *
pins: 1, 2, 3, 4, 5, 6, 7, 8, 9, 10, 11, 12, 13, 14, 15, 16, 17, 18, 19, 20, 21, 22, 23, 24, 25, 26

## XS-27
designator XP?
Pin 25 Name: *; Pin 24 Name: *; Pin 23 Name: *; Pin 22 Name: *; Pin 21 Name: *; Pin 20 Name: *; Pin 19 Name: *; Pin 18 Name: *; Pin 17 Name: *; Pin 16 Name: *; Pin 15 Name: *; Pin 14 Name: *; Pin 13 Name: *; Pin 12 Name: *; Pin 11 Name: *; Pin 10 Name: *; Pin 9 Name: *; Pin 8 Name: *; Pin 7 Name: *; Pin 6 Name: *; Pin 5 Name: *; Pin 4 Name: *; Pin 3 Name: *; Pin 2 Name: *; Pin 1 Name: *; Name Connector: *; Pin 26 Name: *; Pin 27 Name: *
pins: 1, 2, 3, 4, 5, 6, 7, 8, 9, 10, 11, 12, 13, 14, 15, 16, 17, 18, 19, 20, 21, 22, 23, 24, 25, 26, 27

## XS-28
designator XP?
Pin 25 Name: *; Pin 24 Name: *; Pin 23 Name: *; Pin 22 Name: *; Pin 21 Name: *; Pin 20 Name: *; Pin 19 Name: *; Pin 18 Name: *; Pin 17 Name: *; Pin 16 Name: *; Pin 15 Name: *; Pin 14 Name: *; Pin 13 Name: *; Pin 12 Name: *; Pin 11 Name: *; Pin 10 Name: *; Pin 9 Name: *; Pin 8 Name: *; Pin 7 Name: *; Pin 6 Name: *; Pin 5 Name: *; Pin 4 Name: *; Pin 3 Name: *; Pin 2 Name: *; Pin 1 Name: *; Name Connector: *; Pin 26 Name: *; Pin 27 Name: *; Pin 28 Name: *
pins: 1, 2, 3, 4, 5, 6, 7, 8, 9, 10, 11, 12, 13, 14, 15, 16, 17, 18, 19, 20, 21, 22, 23, 24, 25, 26, 27, 28

## XS-29
designator XP?
Pin 25 Name: *; Pin 24 Name: *; Pin 23 Name: *; Pin 22 Name: *; Pin 21 Name: *; Pin 20 Name: *; Pin 19 Name: *; Pin 18 Name: *; Pin 17 Name: *; Pin 16 Name: *; Pin 15 Name: *; Pin 14 Name: *; Pin 13 Name: *; Pin 12 Name: *; Pin 11 Name: *; Pin 10 Name: *; Pin 9 Name: *; Pin 8 Name: *; Pin 7 Name: *; Pin 6 Name: *; Pin 5 Name: *; Pin 4 Name: *; Pin 3 Name: *; Pin 2 Name: *; Pin 1 Name: *; Name Connector: *; Pin 26 Name: *; Pin 27 Name: *; Pin 28 Name: *; Pin 29 Name: *
pins: 1, 2, 3, 4, 5, 6, 7, 8, 9, 10, 11, 12, 13, 14, 15, 16, 17, 18, 19, 20, 21, 22, 23, 24, 25, 26, 27, 28, 29

## XS-30
designator XP?
Pin 25 Name: *; Pin 24 Name: *; Pin 23 Name: *; Pin 22 Name: *; Pin 21 Name: *; Pin 20 Name: *; Pin 19 Name: *; Pin 18 Name: *; Pin 17 Name: *; Pin 16 Name: *; Pin 15 Name: *; Pin 14 Name: *; Pin 13 Name: *; Pin 12 Name: *; Pin 11 Name: *; Pin 10 Name: *; Pin 9 Name: *; Pin 8 Name: *; Pin 7 Name: *; Pin 6 Name: *; Pin 5 Name: *; Pin 4 Name: *; Pin 3 Name: *; Pin 2 Name: *; Pin 1 Name: *; Name Connector: *; Pin 26 Name: *; Pin 27 Name: *; Pin 28 Name: *; Pin 29 Name: *; Pin 30 Name: *
pins: 1, 2, 3, 4, 5, 6, 7, 8, 9, 10, 11, 12, 13, 14, 15, 16, 17, 18, 19, 20, 21, 22, 23, 24, 25, 26, 27, 28, 29, 30

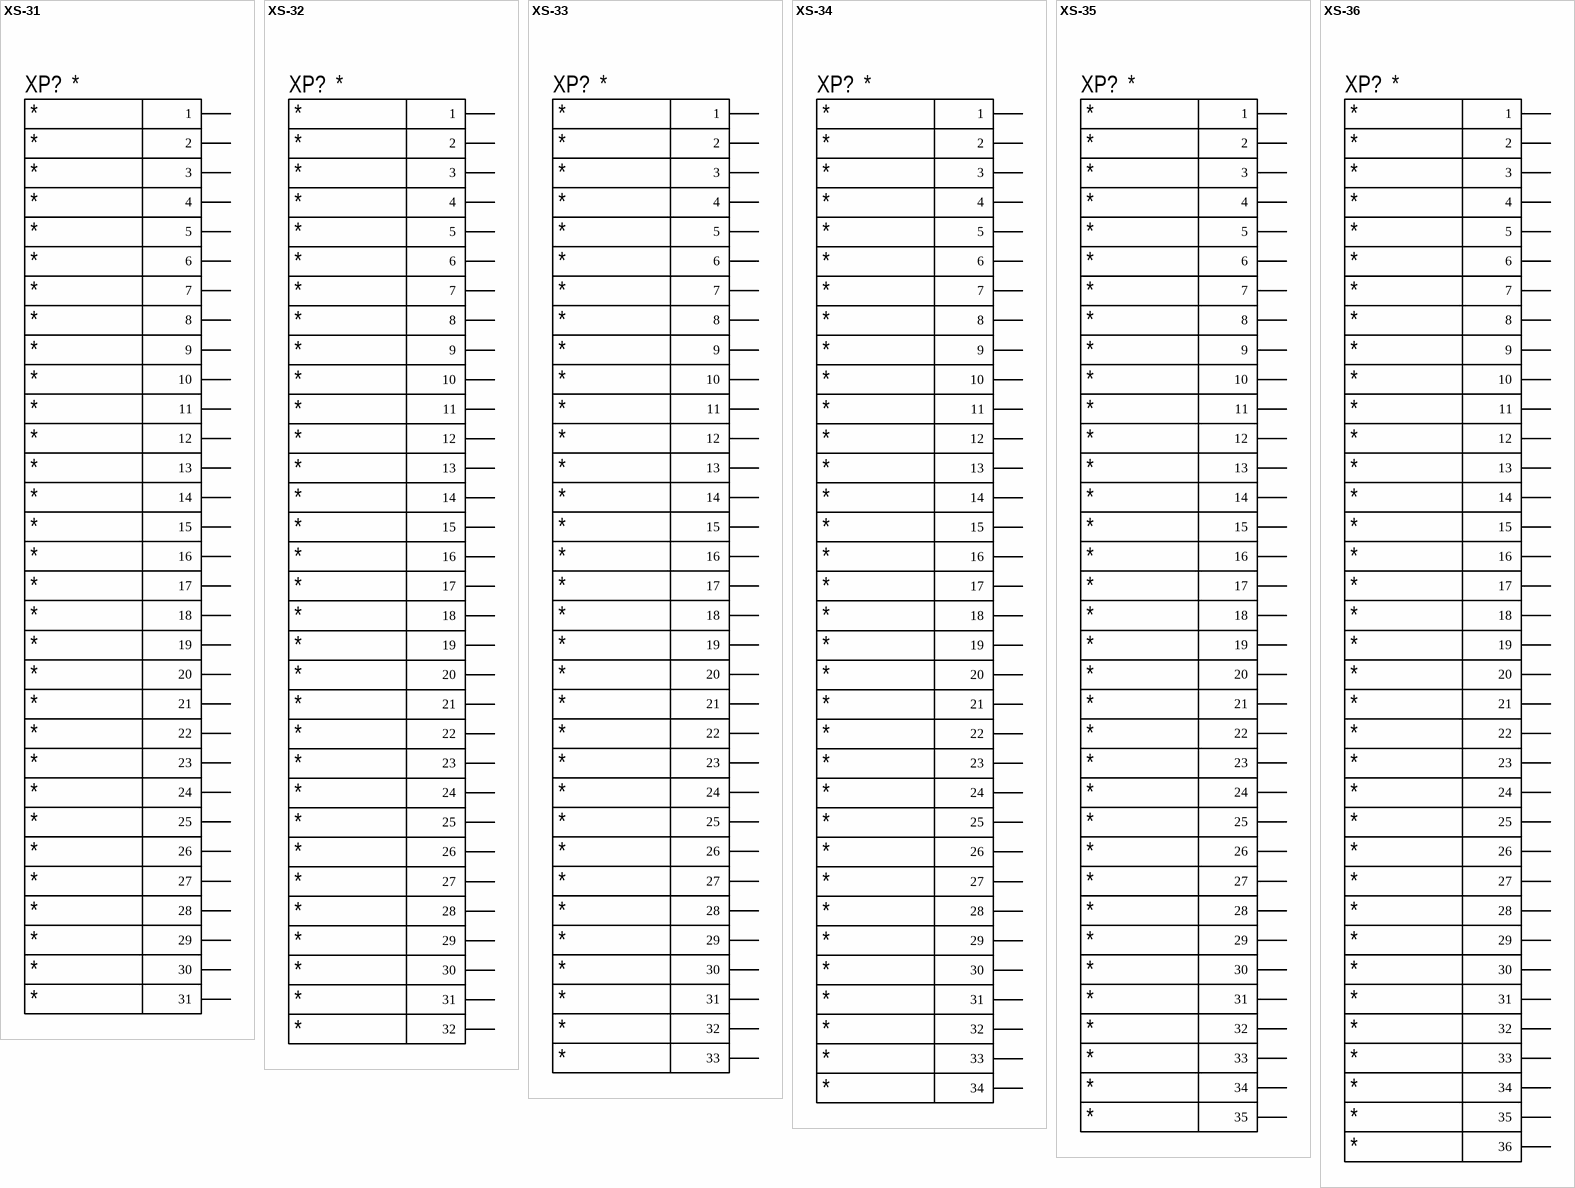
[diagram p7: symbols XS-31 to XS-36]

## XS-31
designator XP?
Pin 25 Name: *; Pin 24 Name: *; Pin 23 Name: *; Pin 22 Name: *; Pin 21 Name: *; Pin 20 Name: *; Pin 19 Name: *; Pin 18 Name: *; Pin 17 Name: *; Pin 16 Name: *; Pin 15 Name: *; Pin 14 Name: *; Pin 13 Name: *; Pin 12 Name: *; Pin 11 Name: *; Pin 10 Name: *; Pin 9 Name: *; Pin 8 Name: *; Pin 7 Name: *; Pin 6 Name: *; Pin 5 Name: *; Pin 4 Name: *; Pin 3 Name: *; Pin 2 Name: *; Pin 1 Name: *; Name Connector: *; Pin 26 Name: *; Pin 27 Name: *; Pin 28 Name: *; Pin 29 Name: *; Pin 30 Name: *; Pin 31 Name: *
pins: 1, 2, 3, 4, 5, 6, 7, 8, 9, 10, 11, 12, 13, 14, 15, 16, 17, 18, 19, 20, 21, 22, 23, 24, 25, 26, 27, 28, 29, 30, 31

## XS-32
designator XP?
Pin 25 Name: *; Pin 24 Name: *; Pin 23 Name: *; Pin 22 Name: *; Pin 21 Name: *; Pin 20 Name: *; Pin 19 Name: *; Pin 18 Name: *; Pin 17 Name: *; Pin 16 Name: *; Pin 15 Name: *; Pin 14 Name: *; Pin 13 Name: *; Pin 12 Name: *; Pin 11 Name: *; Pin 10 Name: *; Pin 9 Name: *; Pin 8 Name: *; Pin 7 Name: *; Pin 6 Name: *; Pin 5 Name: *; Pin 4 Name: *; Pin 3 Name: *; Pin 2 Name: *; Pin 1 Name: *; Name Connector: *; Pin 26 Name: *; Pin 27 Name: *; Pin 28 Name: *; Pin 29 Name: *; Pin 30 Name: *; Pin 31 Name: *; Pin 32 Name: *
pins: 1, 2, 3, 4, 5, 6, 7, 8, 9, 10, 11, 12, 13, 14, 15, 16, 17, 18, 19, 20, 21, 22, 23, 24, 25, 26, 27, 28, 29, 30, 31, 32

## XS-33
designator XP?
Pin 25 Name: *; Pin 24 Name: *; Pin 23 Name: *; Pin 22 Name: *; Pin 21 Name: *; Pin 20 Name: *; Pin 19 Name: *; Pin 18 Name: *; Pin 17 Name: *; Pin 16 Name: *; Pin 15 Name: *; Pin 14 Name: *; Pin 13 Name: *; Pin 12 Name: *; Pin 11 Name: *; Pin 10 Name: *; Pin 9 Name: *; Pin 8 Name: *; Pin 7 Name: *; Pin 6 Name: *; Pin 5 Name: *; Pin 4 Name: *; Pin 3 Name: *; Pin 2 Name: *; Pin 1 Name: *; Name Connector: *; Pin 26 Name: *; Pin 27 Name: *; Pin 28 Name: *; Pin 29 Name: *; Pin 30 Name: *; Pin 31 Name: *; Pin 32 Name: *; Pin 33 Name: *
pins: 1, 2, 3, 4, 5, 6, 7, 8, 9, 10, 11, 12, 13, 14, 15, 16, 17, 18, 19, 20, 21, 22, 23, 24, 25, 26, 27, 28, 29, 30, 31, 32, 33

## XS-34
designator XP?
Pin 25 Name: *; Pin 24 Name: *; Pin 23 Name: *; Pin 22 Name: *; Pin 21 Name: *; Pin 20 Name: *; Pin 19 Name: *; Pin 18 Name: *; Pin 17 Name: *; Pin 16 Name: *; Pin 15 Name: *; Pin 14 Name: *; Pin 13 Name: *; Pin 12 Name: *; Pin 11 Name: *; Pin 10 Name: *; Pin 9 Name: *; Pin 8 Name: *; Pin 7 Name: *; Pin 6 Name: *; Pin 5 Name: *; Pin 4 Name: *; Pin 3 Name: *; Pin 2 Name: *; Pin 1 Name: *; Name Connector: *; Pin 26 Name: *; Pin 27 Name: *; Pin 28 Name: *; Pin 29 Name: *; Pin 30 Name: *; Pin 31 Name: *; Pin 32 Name: *; Pin 33 Name: *; Pin 34 Name: *
pins: 1, 2, 3, 4, 5, 6, 7, 8, 9, 10, 11, 12, 13, 14, 15, 16, 17, 18, 19, 20, 21, 22, 23, 24, 25, 26, 27, 28, 29, 30, 31, 32, 33, 34

## XS-35
designator XP?
Pin 25 Name: *; Pin 24 Name: *; Pin 23 Name: *; Pin 22 Name: *; Pin 21 Name: *; Pin 20 Name: *; Pin 19 Name: *; Pin 18 Name: *; Pin 17 Name: *; Pin 16 Name: *; Pin 15 Name: *; Pin 14 Name: *; Pin 13 Name: *; Pin 12 Name: *; Pin 11 Name: *; Pin 10 Name: *; Pin 9 Name: *; Pin 8 Name: *; Pin 7 Name: *; Pin 6 Name: *; Pin 5 Name: *; Pin 4 Name: *; Pin 3 Name: *; Pin 2 Name: *; Pin 1 Name: *; Name Connector: *; Pin 26 Name: *; Pin 27 Name: *; Pin 28 Name: *; Pin 29 Name: *; Pin 30 Name: *; Pin 31 Name: *; Pin 32 Name: *; Pin 33 Name: *; Pin 34 Name: *; Pin 35 Name: *
pins: 1, 2, 3, 4, 5, 6, 7, 8, 9, 10, 11, 12, 13, 14, 15, 16, 17, 18, 19, 20, 21, 22, 23, 24, 25, 26, 27, 28, 29, 30, 31, 32, 33, 34, 35

## XS-36
designator XP?
Pin 25 Name: *; Pin 24 Name: *; Pin 23 Name: *; Pin 22 Name: *; Pin 21 Name: *; Pin 20 Name: *; Pin 19 Name: *; Pin 18 Name: *; Pin 17 Name: *; Pin 16 Name: *; Pin 15 Name: *; Pin 14 Name: *; Pin 13 Name: *; Pin 12 Name: *; Pin 11 Name: *; Pin 10 Name: *; Pin 9 Name: *; Pin 8 Name: *; Pin 7 Name: *; Pin 6 Name: *; Pin 5 Name: *; Pin 4 Name: *; Pin 3 Name: *; Pin 2 Name: *; Pin 1 Name: *; Name Connector: *; Pin 26 Name: *; Pin 27 Name: *; Pin 28 Name: *; Pin 29 Name: *; Pin 30 Name: *; Pin 31 Name: *; Pin 32 Name: *; Pin 33 Name: *; Pin 34 Name: *; Pin 35 Name: *; Pin 36 Name: *
pins: 1, 2, 3, 4, 5, 6, 7, 8, 9, 10, 11, 12, 13, 14, 15, 16, 17, 18, 19, 20, 21, 22, 23, 24, 25, 26, 27, 28, 29, 30, 31, 32, 33, 34, 35, 36

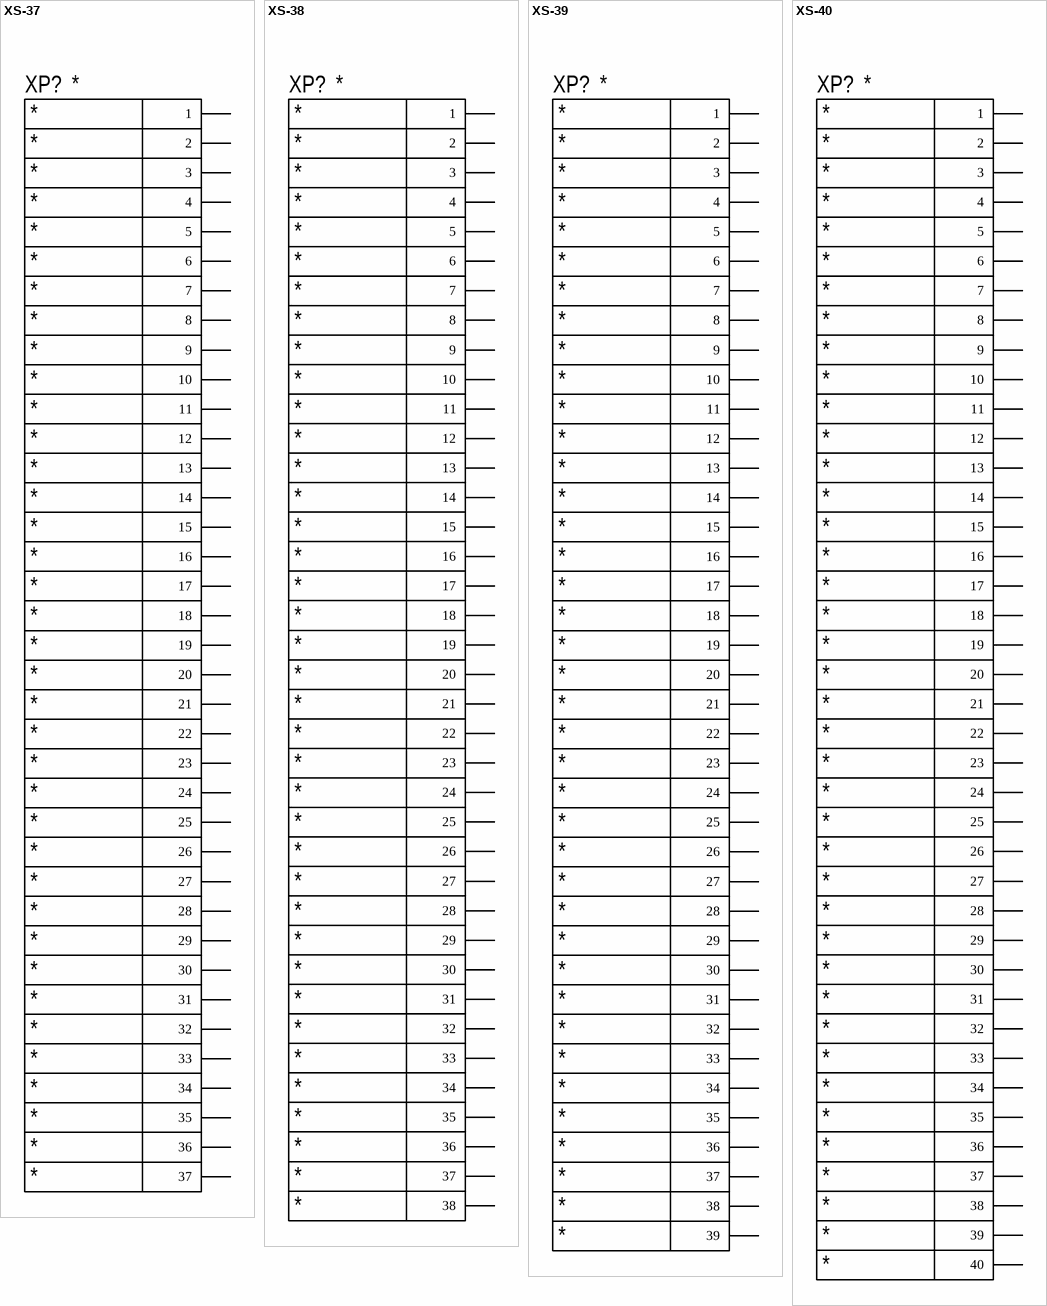
[diagram p8: symbols XS-37 to XS-40]

## XS-37
designator XP?
Pin 25 Name: *; Pin 24 Name: *; Pin 23 Name: *; Pin 22 Name: *; Pin 21 Name: *; Pin 20 Name: *; Pin 19 Name: *; Pin 18 Name: *; Pin 17 Name: *; Pin 16 Name: *; Pin 15 Name: *; Pin 14 Name: *; Pin 13 Name: *; Pin 12 Name: *; Pin 11 Name: *; Pin 10 Name: *; Pin 9 Name: *; Pin 8 Name: *; Pin 7 Name: *; Pin 6 Name: *; Pin 5 Name: *; Pin 4 Name: *; Pin 3 Name: *; Pin 2 Name: *; Pin 1 Name: *; Name Connector: *; Pin 26 Name: *; Pin 27 Name: *; Pin 28 Name: *; Pin 29 Name: *; Pin 30 Name: *; Pin 31 Name: *; Pin 32 Name: *; Pin 33 Name: *; Pin 34 Name: *; Pin 35 Name: *; Pin 36 Name: *; Pin 37 Name: *
pins: 1, 2, 3, 4, 5, 6, 7, 8, 9, 10, 11, 12, 13, 14, 15, 16, 17, 18, 19, 20, 21, 22, 23, 24, 25, 26, 27, 28, 29, 30, 31, 32, 33, 34, 35, 36, 37

## XS-38
designator XP?
Pin 25 Name: *; Pin 24 Name: *; Pin 23 Name: *; Pin 22 Name: *; Pin 21 Name: *; Pin 20 Name: *; Pin 19 Name: *; Pin 18 Name: *; Pin 17 Name: *; Pin 16 Name: *; Pin 15 Name: *; Pin 14 Name: *; Pin 13 Name: *; Pin 12 Name: *; Pin 11 Name: *; Pin 10 Name: *; Pin 9 Name: *; Pin 8 Name: *; Pin 7 Name: *; Pin 6 Name: *; Pin 5 Name: *; Pin 4 Name: *; Pin 3 Name: *; Pin 2 Name: *; Pin 1 Name: *; Name Connector: *; Pin 26 Name: *; Pin 27 Name: *; Pin 28 Name: *; Pin 29 Name: *; Pin 30 Name: *; Pin 31 Name: *; Pin 32 Name: *; Pin 33 Name: *; Pin 34 Name: *; Pin 35 Name: *; Pin 36 Name: *; Pin 37 Name: *; Pin 38 Name: *
pins: 1, 2, 3, 4, 5, 6, 7, 8, 9, 10, 11, 12, 13, 14, 15, 16, 17, 18, 19, 20, 21, 22, 23, 24, 25, 26, 27, 28, 29, 30, 31, 32, 33, 34, 35, 36, 37, 38

## XS-39
designator XP?
Pin 25 Name: *; Pin 24 Name: *; Pin 23 Name: *; Pin 22 Name: *; Pin 21 Name: *; Pin 20 Name: *; Pin 19 Name: *; Pin 18 Name: *; Pin 17 Name: *; Pin 16 Name: *; Pin 15 Name: *; Pin 14 Name: *; Pin 13 Name: *; Pin 12 Name: *; Pin 11 Name: *; Pin 10 Name: *; Pin 9 Name: *; Pin 8 Name: *; Pin 7 Name: *; Pin 6 Name: *; Pin 5 Name: *; Pin 4 Name: *; Pin 3 Name: *; Pin 2 Name: *; Pin 1 Name: *; Name Connector: *; Pin 26 Name: *; Pin 27 Name: *; Pin 28 Name: *; Pin 29 Name: *; Pin 30 Name: *; Pin 31 Name: *; Pin 32 Name: *; Pin 33 Name: *; Pin 34 Name: *; Pin 35 Name: *; Pin 36 Name: *; Pin 37 Name: *; Pin 38 Name: *; Pin 39 Name: *
pins: 1, 2, 3, 4, 5, 6, 7, 8, 9, 10, 11, 12, 13, 14, 15, 16, 17, 18, 19, 20, 21, 22, 23, 24, 25, 26, 27, 28, 29, 30, 31, 32, 33, 34, 35, 36, 37, 38, 39

## XS-40
designator XP?
Pin 25 Name: *; Pin 24 Name: *; Pin 23 Name: *; Pin 22 Name: *; Pin 21 Name: *; Pin 20 Name: *; Pin 19 Name: *; Pin 18 Name: *; Pin 17 Name: *; Pin 16 Name: *; Pin 15 Name: *; Pin 14 Name: *; Pin 13 Name: *; Pin 12 Name: *; Pin 11 Name: *; Pin 10 Name: *; Pin 9 Name: *; Pin 8 Name: *; Pin 7 Name: *; Pin 6 Name: *; Pin 5 Name: *; Pin 4 Name: *; Pin 3 Name: *; Pin 2 Name: *; Pin 1 Name: *; Name Connector: *; Pin 26 Name: *; Pin 27 Name: *; Pin 28 Name: *; Pin 29 Name: *; Pin 30 Name: *; Pin 31 Name: *; Pin 32 Name: *; Pin 33 Name: *; Pin 34 Name: *; Pin 35 Name: *; Pin 36 Name: *; Pin 37 Name: *; Pin 38 Name: *; Pin 39 Name: *; Pin 40 Name: *
pins: 1, 2, 3, 4, 5, 6, 7, 8, 9, 10, 11, 12, 13, 14, 15, 16, 17, 18, 19, 20, 21, 22, 23, 24, 25, 26, 27, 28, 29, 30, 31, 32, 33, 34, 35, 36, 37, 38, 39, 40